# Altium schematic symbol library 单片机.SchLib: 19 symbols
Pins are listed as number, name and electrical type; pins without a type are passive.

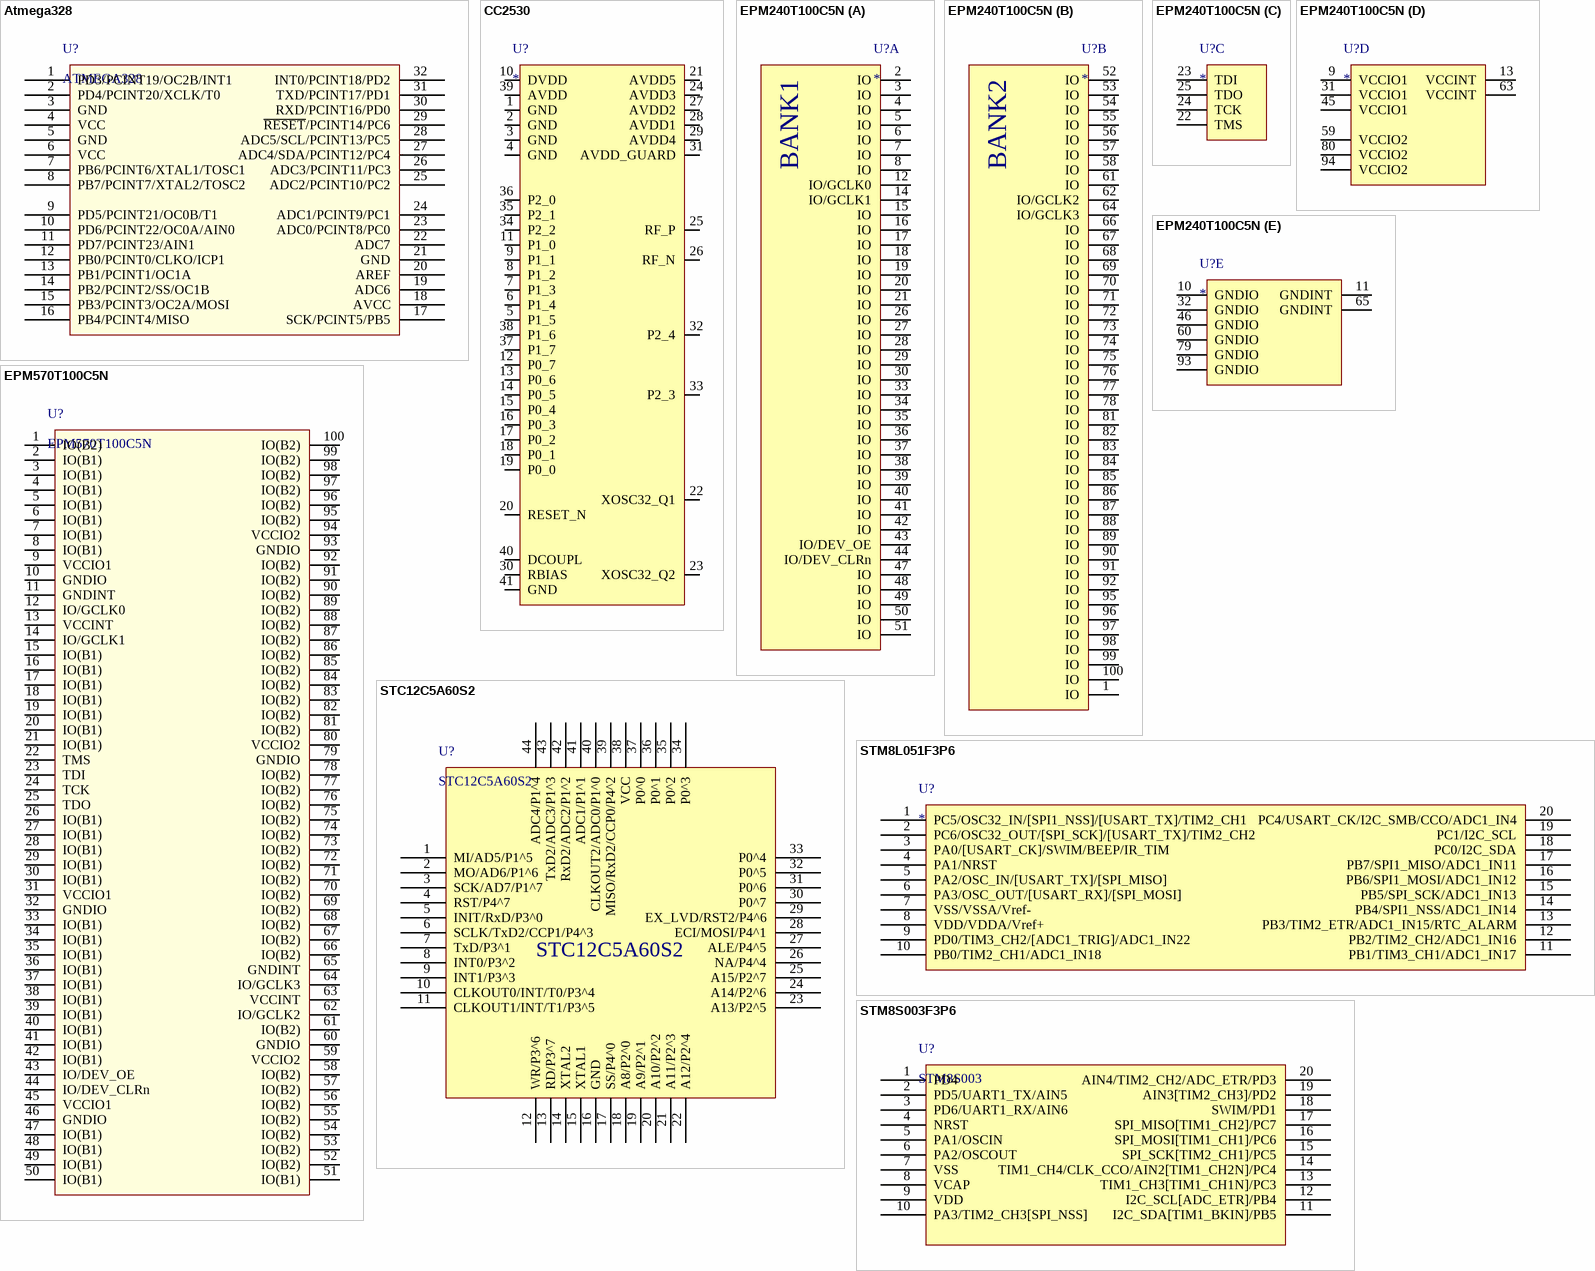
[diagram p0: symbols Atmega328 to STM8S003F3P6]

## Atmega328
designator U?, comment ATMEGA328
footprint TQFP-32_7x7x08P
pins: 1 PD3/PCINT19/OC2B/INT1, 2 PD4/PCINT20/XCLK/T0, 3 GND, 4 VCC, 5 GND, 6 VCC, 7 PB6/PCINT6/XTAL1/TOSC1, 8 PB7/PCINT7/XTAL2/TOSC2, 9 PD5/PCINT21/OC0B/T1, 10 PD6/PCINT22/OC0A/AIN0, 11 PD7/PCINT23/AIN1, 12 PB0/PCINT0/CLKO/ICP1, 13 PB1/PCINT1/OC1A, 14 PB2/PCINT2/SS/OC1B, 15 PB3/PCINT3/OC2A/MOSI, 16 PB4/PCINT4/MISO, 17 SCK/PCINT5/PB5, 18 AVCC, 19 ADC6, 20 AREF, 21 GND, 22 ADC7, 23 ADC0/PCINT8/PC0, 24 ADC1/PCINT9/PC1, 25 ADC2/PCINT10/PC2, 26 ADC3/PCINT11/PC3, 27 ADC4/SDA/PCINT12/PC4, 28 ADC5/SCL/PCINT13/PC5, 29 ~{RESET}/PCINT14/PC6, 30 RXD/PCINT16/PD0, 31 TXD/PCINT17/PD1, 32 INT0/PCINT18/PD2

## CC2530
designator U?
CC2530
footprint CC2530
pins: 1 GND, 2 GND, 3 GND, 4 GND, 5 P1_5, 6 P1_4, 7 P1_3, 8 P1_2, 9 P1_1, 10 DVDD, 11 P1_0, 12 P0_7, 13 P0_6, 14 P0_5, 15 P0_4, 16 P0_3, 17 P0_2, 18 P0_1, 19 P0_0, 20 RESET_N, 21 AVDD5, 22 XOSC32_Q1, 23 XOSC32_Q2, 24 AVDD3, 25 RF_P, 26 RF_N, 27 AVDD2, 28 AVDD1, 29 AVDD4, 30 RBIAS, 31 AVDD_GUARD, 32 P2_4, 33 P2_3, 34 P2_2, 35 P2_1, 36 P2_0, 37 P1_7, 38 P1_6, 39 AVDD, 40 DCOUPL, 41 GND

## EPM240T100C5N
designator U?
footprint TQFP100_14X14X05P
part A pins: 2 IO, 3 IO, 4 IO, 5 IO, 6 IO, 7 IO, 8 IO, 12 IO/GCLK0, 14 IO/GCLK1, 15 IO, 16 IO, 17 IO, 18 IO, 19 IO, 20 IO, 21 IO, 26 IO, 27 IO, 28 IO, 29 IO, 30 IO, 33 IO, 34 IO, 35 IO, 36 IO, 37 IO, 38 IO, 39 IO, 40 IO, 41 IO, 42 IO, 43 IO/DEV_OE, 44 IO/DEV_CLRn, 47 IO, 48 IO, 49 IO, 50 IO, 51 IO
part B pins: 1 IO, 52 IO, 53 IO, 54 IO, 55 IO, 56 IO, 57 IO, 58 IO, 61 IO, 62 IO/GCLK2, 64 IO/GCLK3, 66 IO, 67 IO, 68 IO, 69 IO, 70 IO, 71 IO, 72 IO, 73 IO, 74 IO, 75 IO, 76 IO, 77 IO, 78 IO, 81 IO, 82 IO, 83 IO, 84 IO, 85 IO, 86 IO, 87 IO, 88 IO, 89 IO, 90 IO, 91 IO, 92 IO, 95 IO, 96 IO, 97 IO, 98 IO, 99 IO, 100 IO
part C pins: 22 TMS, 23 TDI, 24 TCK, 25 TDO
part D pins: 9 VCCIO1, 13 VCCINT, 31 VCCIO1, 45 VCCIO1, 59 VCCIO2, 63 VCCINT, 80 VCCIO2, 94 VCCIO2
part E pins: 10 GNDIO, 11 GNDINT, 32 GNDIO, 46 GNDIO, 60 GNDIO, 65 GNDINT, 79 GNDIO, 93 GNDIO
part A text: BANK1
part B text: BANK2

## EPM570T100C5N
designator U?
footprint LQFP100_L
footprint Model Name (Footprint not found)
pins: 1 IO(B2), 2 IO(B1), 3 IO(B1), 4 IO(B1), 5 IO(B1), 6 IO(B1), 7 IO(B1), 8 IO(B1), 9 VCCIO1, 10 GNDIO, 11 GNDINT, 12 IO/GCLK0, 13 VCCINT, 14 IO/GCLK1, 15 IO(B1), 16 IO(B1), 17 IO(B1), 18 IO(B1), 19 IO(B1), 20 IO(B1), 21 IO(B1), 22 TMS, 23 TDI, 24 TCK, 25 TDO, 26 IO(B1), 27 IO(B1), 28 IO(B1), 29 IO(B1), 30 IO(B1), 31 VCCIO1, 32 GNDIO, 33 IO(B1), 34 IO(B1), 35 IO(B1), 36 IO(B1), 37 IO(B1), 38 IO(B1), 39 IO(B1), 40 IO(B1), 41 IO(B1), 42 IO(B1), 43 IO/DEV_OE, 44 IO/DEV_CLRn, 45 VCCIO1, 46 GNDIO, 47 IO(B1), 48 IO(B1), 49 IO(B1), 50 IO(B1), 51 IO(B1), 52 IO(B2), 53 IO(B2), 54 IO(B2), 55 IO(B2), 56 IO(B2), 57 IO(B2), 58 IO(B2), 59 VCCIO2, 60 GNDIO, 61 IO(B2), 62 IO/GCLK2, 63 VCCINT, 64 IO/GCLK3, 65 GNDINT, 66 IO(B2), 67 IO(B2), 68 IO(B2), 69 IO(B2), 70 IO(B2), 71 IO(B2), 72 IO(B2), 73 IO(B2), 74 IO(B2), 75 IO(B2), 76 IO(B2), 77 IO(B2), 78 IO(B2), 79 GNDIO, 80 VCCIO2, 81 IO(B2), 82 IO(B2), 83 IO(B2), 84 IO(B2), 85 IO(B2), 86 IO(B2), 87 IO(B2), 88 IO(B2), 89 IO(B2), 90 IO(B2), 91 IO(B2), 92 IO(B2), 93 GNDIO, 94 VCCIO2, 95 IO(B2), 96 IO(B2), 97 IO(B2), 98 IO(B2), 99 IO(B2), 100 IO(B2)

## STC12C5A60S2
designator U?
footprint SOP44 (STC12C5A60S2)
pins: 1 MI/AD5/P1^5, 2 MO/AD6/P1^6, 3 SCK/AD7/P1^7, 4 RST/P4^7, 5 INIT/RxD/P3^0, 6 SCLK/TxD2/CCP1/P4^3, 7 TxD/P3^1, 8 INT0/P3^2, 9 INT1/P3^3, 10 CLKOUT0/INT/T0/P3^4, 11 CLKOUT1/INT/T1/P3^5, 12 WR/P3^6, 13 RD/P3^7, 14 XTAL2, 15 XTAL1, 16 GND, 17 SS/P4^0, 18 A8/P2^0, 19 A9/P2^1, 20 A10/P2^2, 21 A11/P2^3, 22 A12/P2^4, 23 A13/P2^5, 24 A14/P2^6, 25 A15/P2^7, 26 NA/P4^4, 27 ALE/P4^5, 28 ECI/MOSI/P4^1, 29 EX_LVD/RST2/P4^6, 30 P0^7, 31 P0^6, 32 P0^5, 33 P0^4, 34 P0^3, 35 P0^2, 36 P0^1, 37 P0^0, 38 VCC, 39 MISO/RxD2/CCP0/P4^2, 40 CLKOUT2/ADC0/P1^0, 41 ADC1/P1^1, 42 RxD2/ADC2/P1^2, 43 TxD2/ADC3/P1^3, 44 ADC4/P1^4

## STM8L051F3P6
designator U?
STM8L051F3P6
footprint TSSOP20
pins: 1 PC5/OSC32_IN/[SPI1_NSS]/[USART_TX]/TIM2_CH1, 2 PC6/OSC32_OUT/[SPI_SCK]/[USART_TX]/TIM2_CH2, 3 PA0/[USART_CK]/SWIM/BEEP/IR_TIM, 4 PA1/NRST, 5 PA2/OSC_IN/[USART_TX]/[SPI_MISO], 6 PA3/OSC_OUT/[USART_RX]/[SPI_MOSI], 7 VSS/VSSA/Vref-, 8 VDD/VDDA/Vref+, 9 PD0/TIM3_CH2/[ADC1_TRIG]/ADC1_IN22, 10 PB0/TIM2_CH1/ADC1_IN18, 11 PB1/TIM3_CH1/ADC1_IN17, 12 PB2/TIM2_CH2/ADC1_IN16, 13 PB3/TIM2_ETR/ADC1_IN15/RTC_ALARM, 14 PB4/SPI1_NSS/ADC1_IN14, 15 PB5/SPI_SCK/ADC1_IN13, 16 PB6/SPI1_MOSI/ADC1_IN12, 17 PB7/SPI1_MISO/ADC1_IN11, 18 PC0/I2C_SDA, 19 PC1/I2C_SCL, 20 PC4/USART_CK/I2C_SMB/CCO/ADC1_IN4

## STM8S003F3P6
designator U?, comment STM8S003
footprint TSSOP20
pins: 1 PD4, 2 PD5/UART1_TX/AIN5, 3 PD6/UART1_RX/AIN6, 4 NRST, 5 PA1/OSCIN, 6 PA2/OSCOUT, 7 VSS, 8 VCAP, 9 VDD, 10 PA3/TIM2_CH3[SPI_NSS], 11 I2C_SDA[TIM1_BKIN]/PB5, 12 I2C_SCL[ADC_ETR]/PB4, 13 TIM1_CH3[TIM1_CH1N]/PC3, 14 TIM1_CH4/CLK_CCO/AIN2[TIM1_CH2N]/PC4, 15 SPI_SCK[TIM2_CH1]/PC5, 16 SPI_MOSI[TIM1_CH1]/PC6, 17 SPI_MISO[TIM1_CH2]/PC7, 18 SWIM/PD1, 19 AIN3[TIM2_CH3]/PD2, 20 AIN4/TIM2_CH2/ADC_ETR/PD3

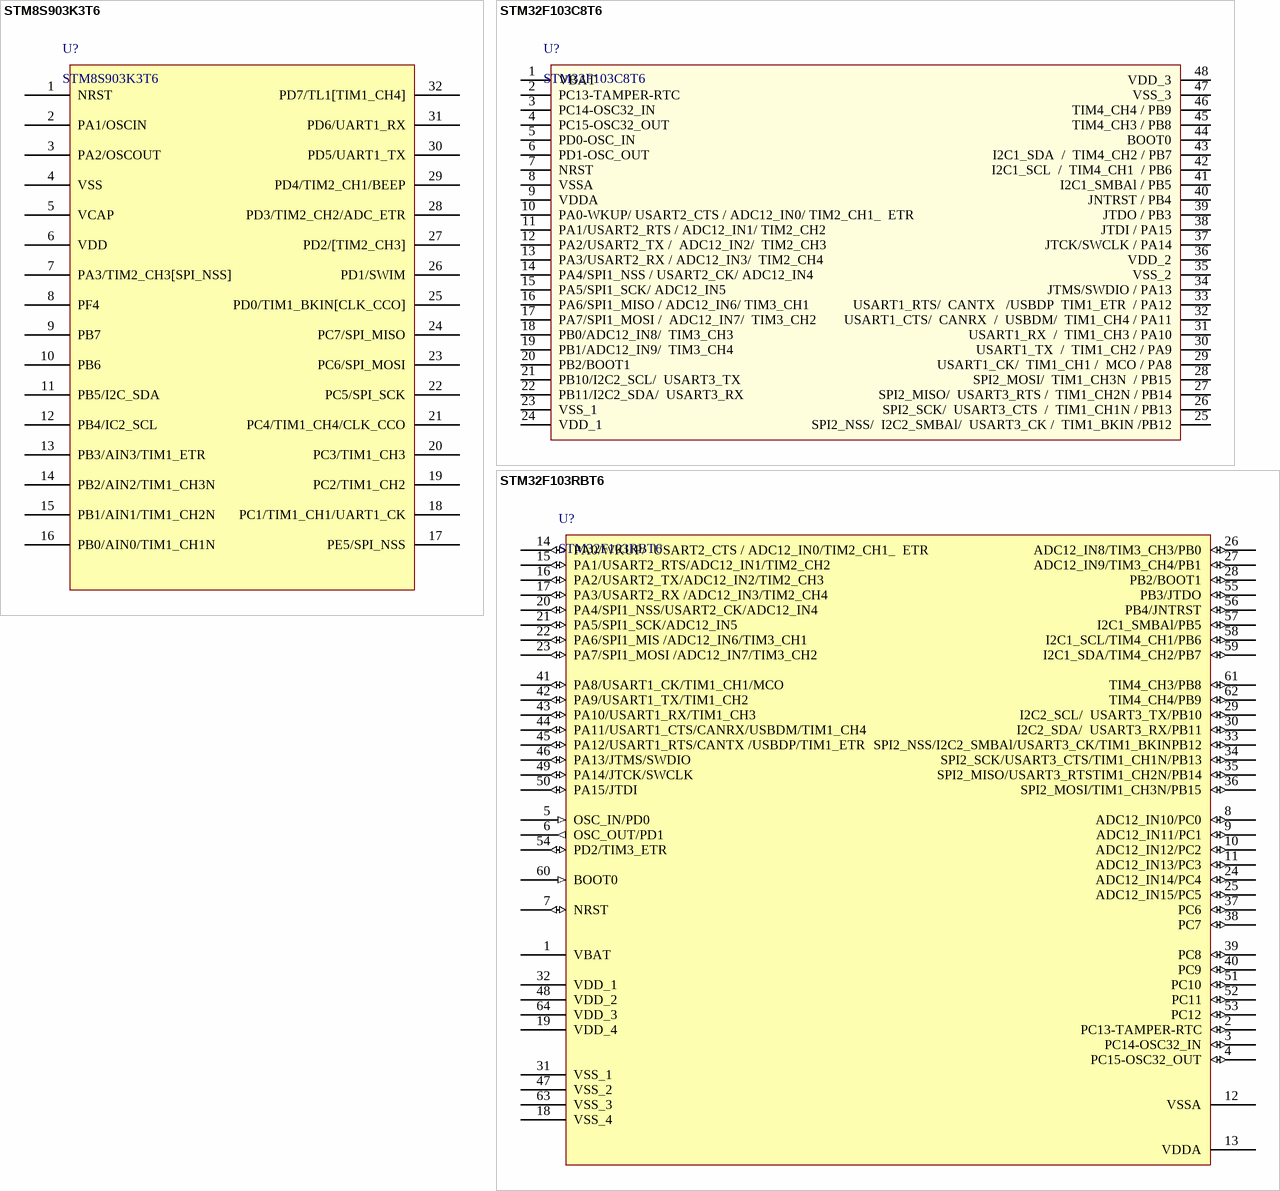
[diagram p1: symbols STM8S903K3T6 to STM32F103RBT6]

## STM8S903K3T6
designator U?
footprint LQFP32 (STM8S903K3T6)
pins: 1 NRST, 2 PA1/OSCIN, 3 PA2/OSCOUT, 4 VSS, 5 VCAP, 6 VDD, 7 PA3/TIM2_CH3[SPI_NSS], 8 PF4, 9 PB7, 10 PB6, 11 PB5/I2C_SDA, 12 PB4/IC2_SCL, 13 PB3/AIN3/TIM1_ETR, 14 PB2/AIN2/TIM1_CH3N, 15 PB1/AIN1/TIM1_CH2N, 16 PB0/AIN0/TIM1_CH1N, 17 PE5/SPI_NSS, 18 PC1/TIM1_CH1/UART1_CK, 19 PC2/TIM1_CH2, 20 PC3/TIM1_CH3, 21 PC4/TIM1_CH4/CLK_CCO, 22 PC5/SPI_SCK, 23 PC6/SPI_MOSI, 24 PC7/SPI_MISO, 25 PD0/TIM1_BKIN[CLK_CCO], 26 PD1/SWIM, 27 PD2/[TIM2_CH3], 28 PD3/TIM2_CH2/ADC_ETR, 29 PD4/TIM2_CH1/BEEP, 30 PD5/UART1_TX, 31 PD6/UART1_RX, 32 PD7/TL1[TIM1_CH4]

## STM32F103C8T6
designator U?
48PIN
footprint LQFP48_7X7X05P_L (焊盘加长)
footprint LQFP48_7X7X05P
pins: 1 VBAT, 2 PC13-TAMPER-RTC, 3 PC14-OSC32_IN, 4 PC15-OSC32_OUT, 5 PD0-OSC_IN, 6 PD1-OSC_OUT, 7 NRST, 8 VSSA, 9 VDDA, 10 PA0-WKUP/ USART2_CTS / ADC12_IN0/ TIM2_CH1_  ETR , 11 PA1/USART2_RTS / ADC12_IN1/ TIM2_CH2, 12 PA2/USART2_TX /  ADC12_IN2/  TIM2_CH3, 13 PA3/USART2_RX / ADC12_IN3/  TIM2_CH4, 14 PA4/SPI1_NSS / USART2_CK/ ADC12_IN4, 15 PA5/SPI1_SCK/ ADC12_IN5, 16 PA6/SPI1_MISO / ADC12_IN6/ TIM3_CH1, 17 PA7/SPI1_MOSI /  ADC12_IN7/  TIM3_CH2, 18 PB0/ADC12_IN8/  TIM3_CH3, 19 PB1/ADC12_IN9/  TIM3_CH4, 20 PB2/BOOT1, 21 PB10/I2C2_SCL/  USART3_TX , 22 PB11/I2C2_SDA/  USART3_RX, 23 VSS_1, 24 VDD_1, 25 SPI2_NSS/  I2C2_SMBAl/  USART3_CK /  TIM1_BKIN /PB12, 26 SPI2_SCK/  USART3_CTS  /  TIM1_CH1N / PB13, 27 SPI2_MISO/  USART3_RTS /  TIM1_CH2N / PB14, 28 SPI2_MOSI/  TIM1_CH3N  / PB15, 29 USART1_CK/  TIM1_CH1 /  MCO / PA8, 30 USART1_TX  /  TIM1_CH2 / PA9, 31 USART1_RX  /  TIM1_CH3 / PA10, 32 USART1_CTS/  CANRX  /  USBDM/  TIM1_CH4 / PA11, 33 USART1_RTS/  CANTX   /USBDP  TIM1_ETR  / PA12, 34 JTMS/SWDIO / PA13, 35 VSS_2, 36 VDD_2, 37 JTCK/SWCLK / PA14, 38 JTDI / PA15, 39 JTDO / PB3, 40 JNTRST / PB4, 41 I2C1_SMBAl / PB5, 42 I2C1_SCL  /  TIM4_CH1  / PB6, 43 I2C1_SDA  /  TIM4_CH2 / PB7, 44 BOOT0, 45 TIM4_CH3 / PB8, 46 TIM4_CH4 / PB9, 47 VSS_3, 48 VDD_3

## STM32F103RBT6
designator U?
64PIN
footprint LQFP64_N
pins: 1 VBAT (power), 2 PC13-TAMPER-RTC (io), 3 PC14-OSC32_IN (io), 4 PC15-OSC32_OUT (io), 5 OSC_IN/PD0 (in), 6 OSC_OUT/PD1 (out), 7 NRST (io), 8 ADC12_IN10/PC0 (io), 9 ADC12_IN11/PC1 (io), 10 ADC12_IN12/PC2 (io), 11 ADC12_IN13/PC3 (io), 12 VSSA (power), 13 VDDA (power), 14 PA0/WKUP/  USART2_CTS / ADC12_IN0/TIM2_CH1_  ETR (io), 15 PA1/USART2_RTS/ADC12_IN1/TIM2_CH2 (io), 16 PA2/USART2_TX/ADC12_IN2/TIM2_CH3 (io), 17 PA3/USART2_RX /ADC12_IN3/TIM2_CH4 (io), 18 VSS_4 (power), 19 VDD_4 (power), 20 PA4/SPI1_NSS/USART2_CK/ADC12_IN4 (io), 21 PA5/SPI1_SCK/ADC12_IN5 (io), 22 PA6/SPI1_MIS /ADC12_IN6/TIM3_CH1 (io), 23 PA7/SPI1_MOSI /ADC12_IN7/TIM3_CH2 (io), 24 ADC12_IN14/PC4 (io), 25 ADC12_IN15/PC5 (io), 26 ADC12_IN8/TIM3_CH3/PB0 (io), 27 ADC12_IN9/TIM3_CH4/PB1 (io), 28 PB2/BOOT1 (io), 29 I2C2_SCL/  USART3_TX/PB10 (io), 30 I2C2_SDA/  USART3_RX/PB11 (io), 31 VSS_1 (power), 32 VDD_1 (power), 33 SPI2_NSS/I2C2_SMBAl/USART3_CK/TIM1_BKINPB12 (io), 34 SPI2_SCK/USART3_CTS/TIM1_CH1N/PB13 (io), 35 SPI2_MISO/USART3_RTSTIM1_CH2N/PB14 (io), 36 SPI2_MOSI/TIM1_CH3N/PB15 (io), 37 PC6 (io), 38 PC7 (io), 39 PC8 (io), 40 PC9 (io), 41 PA8/USART1_CK/TIM1_CH1/MCO (io), 42 PA9/USART1_TX/TIM1_CH2  (io), 43 PA10/USART1_RX/TIM1_CH3 (io), 44 PA11/USART1_CTS/CANRX/USBDM/TIM1_CH4 (io), 45 PA12/USART1_RTS/CANTX /USBDP/TIM1_ETR (io), 46 PA13/JTMS/SWDIO (io), 47 VSS_2 (power), 48 VDD_2 (power), 49 PA14/JTCK/SWCLK (io), 50 PA15/JTDI (io), 51 PC10 (io), 52 PC11 (io), 53 PC12 (io), 54 PD2/TIM3_ETR (io), 55 PB3/JTDO (io), 56 PB4/JNTRST (io), 57 I2C1_SMBAl/PB5 (io), 58 I2C1_SCL/TIM4_CH1/PB6 (io), 59 I2C1_SDA/TIM4_CH2/PB7 (io), 60 BOOT0 (in), 61 TIM4_CH3/PB8 (io), 62 TIM4_CH4/PB9 (io), 63 VSS_3 (power), 64 VDD_3 (power)

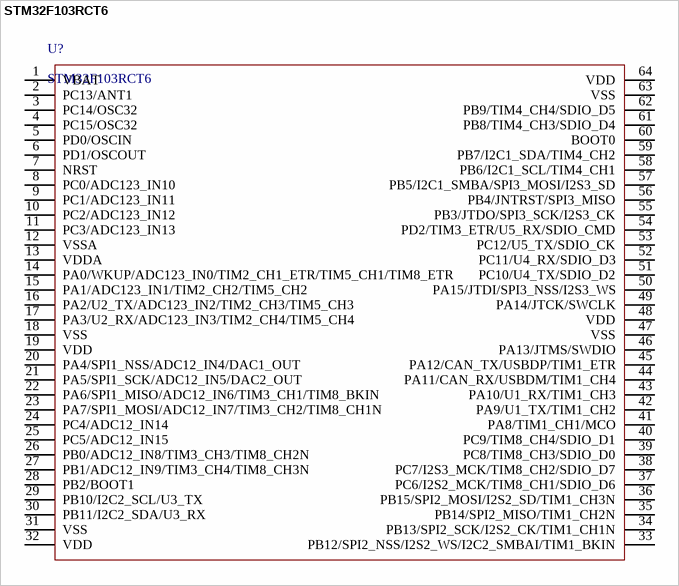
[diagram p2: symbol STM32F103RCT6]

## STM32F103RCT6
designator U?
64PIN
footprint LQFP64_N
footprint LQFP64_10X10X05P_L (焊盘加长)
pins: 1 VBAT, 2 PC13/ANT1, 3 PC14/OSC32, 4 PC15/OSC32, 5 PD0/OSCIN, 6 PD1/OSCOUT, 7 NRST, 8 PC0/ADC123_IN10, 9 PC1/ADC123_IN11, 10 PC2/ADC123_IN12, 11 PC3/ADC123_IN13, 12 VSSA, 13 VDDA, 14 PA0/WKUP/ADC123_IN0/TIM2_CH1_ETR/TIM5_CH1/TIM8_ETR, 15 PA1/ADC123_IN1/TIM2_CH2/TIM5_CH2, 16 PA2/U2_TX/ADC123_IN2/TIM2_CH3/TIM5_CH3, 17 PA3/U2_RX/ADC123_IN3/TIM2_CH4/TIM5_CH4, 18 VSS, 19 VDD, 20 PA4/SPI1_NSS/ADC12_IN4/DAC1_OUT, 21 PA5/SPI1_SCK/ADC12_IN5/DAC2_OUT, 22 PA6/SPI1_MISO/ADC12_IN6/TIM3_CH1/TIM8_BKIN, 23 PA7/SPI1_MOSI/ADC12_IN7/TIM3_CH2/TIM8_CH1N, 24 PC4/ADC12_IN14, 25 PC5/ADC12_IN15, 26 PB0/ADC12_IN8/TIM3_CH3/TIM8_CH2N, 27 PB1/ADC12_IN9/TIM3_CH4/TIM8_CH3N, 28 PB2/BOOT1, 29 PB10/I2C2_SCL/U3_TX, 30 PB11/I2C2_SDA/U3_RX, 31 VSS, 32 VDD, 33 PB12/SPI2_NSS/I2S2_WS/I2C2_SMBAI/TIM1_BKIN, 34 PB13/SPI2_SCK/I2S2_CK/TIM1_CH1N, 35 PB14/SPI2_MISO/TIM1_CH2N, 36 PB15/SPI2_MOSI/I2S2_SD/TIM1_CH3N, 37 PC6/I2S2_MCK/TIM8_CH1/SDIO_D6, 38 PC7/I2S3_MCK/TIM8_CH2/SDIO_D7, 39 PC8/TIM8_CH3/SDIO_D0, 40 PC9/TIM8_CH4/SDIO_D1, 41 PA8/TIM1_CH1/MCO, 42 PA9/U1_TX/TIM1_CH2, 43 PA10/U1_RX/TIM1_CH3, 44 PA11/CAN_RX/USBDM/TIM1_CH4, 45 PA12/CAN_TX/USBDP/TIM1_ETR, 46 PA13/JTMS/SWDIO, 47 VSS, 48 VDD, 49 PA14/JTCK/SWCLK, 50 PA15/JTDI/SPI3_NSS/I2S3_WS, 51 PC10/U4_TX/SDIO_D2, 52 PC11/U4_RX/SDIO_D3, 53 PC12/U5_TX/SDIO_CK, 54 PD2/TIM3_ETR/U5_RX/SDIO_CMD, 55 PB3/JTDO/SPI3_SCK/I2S3_CK, 56 PB4/JNTRST/SPI3_MISO, 57 PB5/I2C1_SMBA/SPI3_MOSI/I2S3_SD, 58 PB6/I2C1_SCL/TIM4_CH1, 59 PB7/I2C1_SDA/TIM4_CH2, 60 BOOT0, 61 PB8/TIM4_CH3/SDIO_D4, 62 PB9/TIM4_CH4/SDIO_D5, 63 VSS, 64 VDD

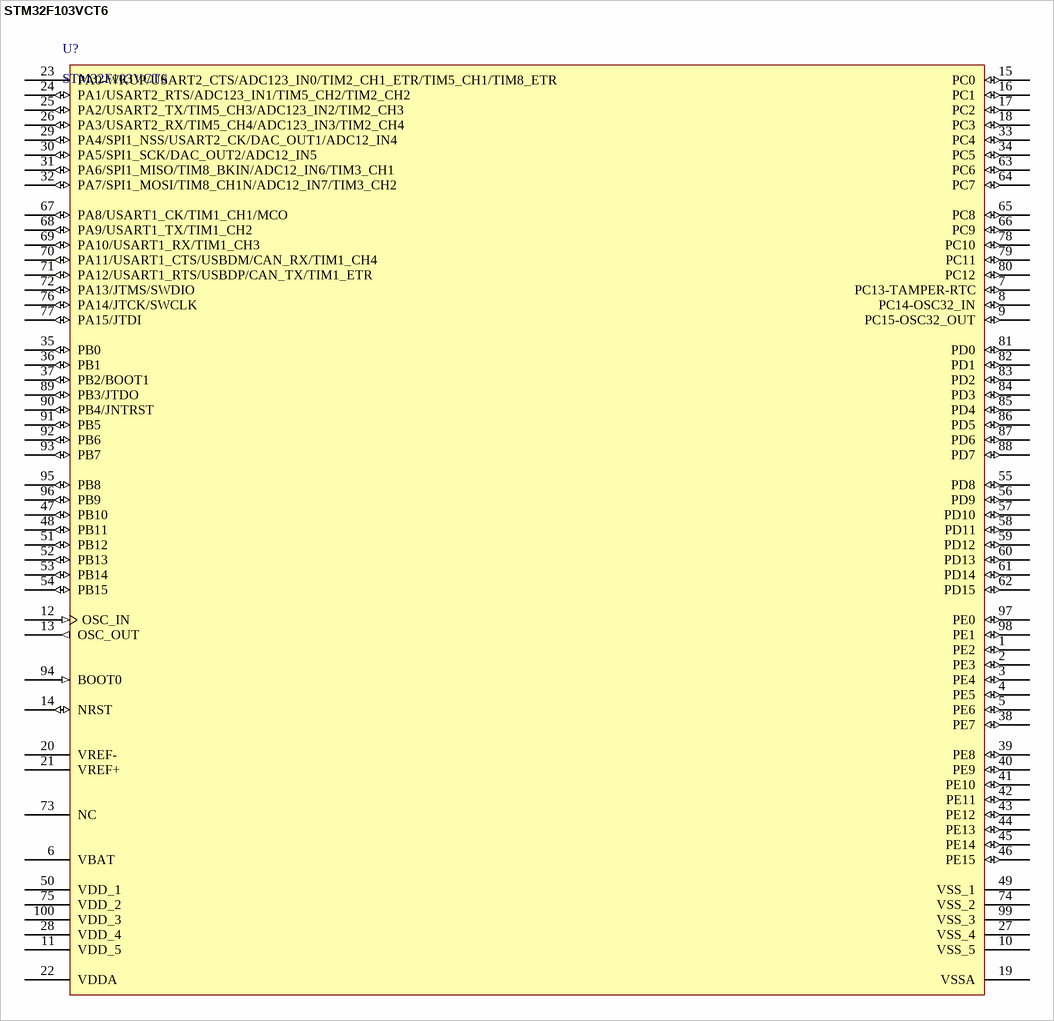
[diagram p3: symbol STM32F103VCT6]

## STM32F103VCT6
designator U?
100PIN
footprint LQFP100_N
pins: 1 PE2 (io), 2 PE3 (io), 3 PE4 (io), 4 PE5 (io), 5 PE6 (io), 6 VBAT (power), 7 PC13-TAMPER-RTC (io), 8 PC14-OSC32_IN (io), 9 PC15-OSC32_OUT (io), 10 VSS_5 (power), 11 VDD_5 (power), 12 OSC_IN (in), 13 OSC_OUT (out), 14 NRST (io), 15 PC0 (io), 16 PC1 (io), 17 PC2 (io), 18 PC3 (io), 19 VSSA (power), 20 VREF- (power), 21 VREF+ (power), 22 VDDA (power), 23 PA0-WKUP/USART2_CTS/ADC123_IN0/TIM2_CH1_ETR/TIM5_CH1/TIM8_ETR, 24 PA1/USART2_RTS/ADC123_IN1/TIM5_CH2/TIM2_CH2 (io), 25 PA2/USART2_TX/TIM5_CH3/ADC123_IN2/TIM2_CH3 (io), 26 PA3/USART2_RX/TIM5_CH4/ADC123_IN3/TIM2_CH4 (io), 27 VSS_4 (power), 28 VDD_4 (power), 29 PA4/SPI1_NSS/USART2_CK/DAC_OUT1/ADC12_IN4 (io), 30 PA5/SPI1_SCK/DAC_OUT2/ADC12_IN5 (io), 31 PA6/SPI1_MISO/TIM8_BKIN/ADC12_IN6/TIM3_CH1 (io), 32 PA7/SPI1_MOSI/TIM8_CH1N/ADC12_IN7/TIM3_CH2 (io), 33 PC4 (io), 34 PC5 (io), 35 PB0 (io), 36 PB1 (io), 37 PB2/BOOT1 (io), 38 PE7 (io), 39 PE8 (io), 40 PE9 (io), 41 PE10 (io), 42 PE11 (io), 43 PE12 (io), 44 PE13 (io), 45 PE14 (io), 46 PE15 (io), 47 PB10 (io), 48 PB11 (io), 49 VSS_1 (power), 50 VDD_1 (power), 51 PB12 (io), 52 PB13 (io), 53 PB14 (io), 54 PB15 (io), 55 PD8 (io), 56 PD9 (io), 57 PD10 (io), 58 PD11 (io), 59 PD12 (io), 60 PD13 (io), 61 PD14 (io), 62 PD15 (io), 63 PC6 (io), 64 PC7 (io), 65 PC8 (io), 66 PC9 (io), 67 PA8/USART1_CK/TIM1_CH1/MCO (io), 68 PA9/USART1_TX/TIM1_CH2 (io), 69 PA10/USART1_RX/TIM1_CH3 (io), 70 PA11/USART1_CTS/USBDM/CAN_RX/TIM1_CH4 (io), 71 PA12/USART1_RTS/USBDP/CAN_TX/TIM1_ETR (io), 72 PA13/JTMS/SWDIO (io), 73 NC, 74 VSS_2 (power), 75 VDD_2 (power), 76 PA14/JTCK/SWCLK (io), 77 PA15/JTDI (io), 78 PC10 (io), 79 PC11 (io), 80 PC12 (io), 81 PD0 (io), 82 PD1 (io), 83 PD2 (io), 84 PD3 (io), 85 PD4 (io), 86 PD5 (io), 87 PD6 (io), 88 PD7 (io), 89 PB3/JTDO (io), 90 PB4/JNTRST (io), 91 PB5 (io), 92 PB6 (io), 93 PB7 (io), 94 BOOT0 (in), 95 PB8 (io), 96 PB9 (io), 97 PE0 (io), 98 PE1 (io), 99 VSS_3 (power), 100 VDD_3 (power)

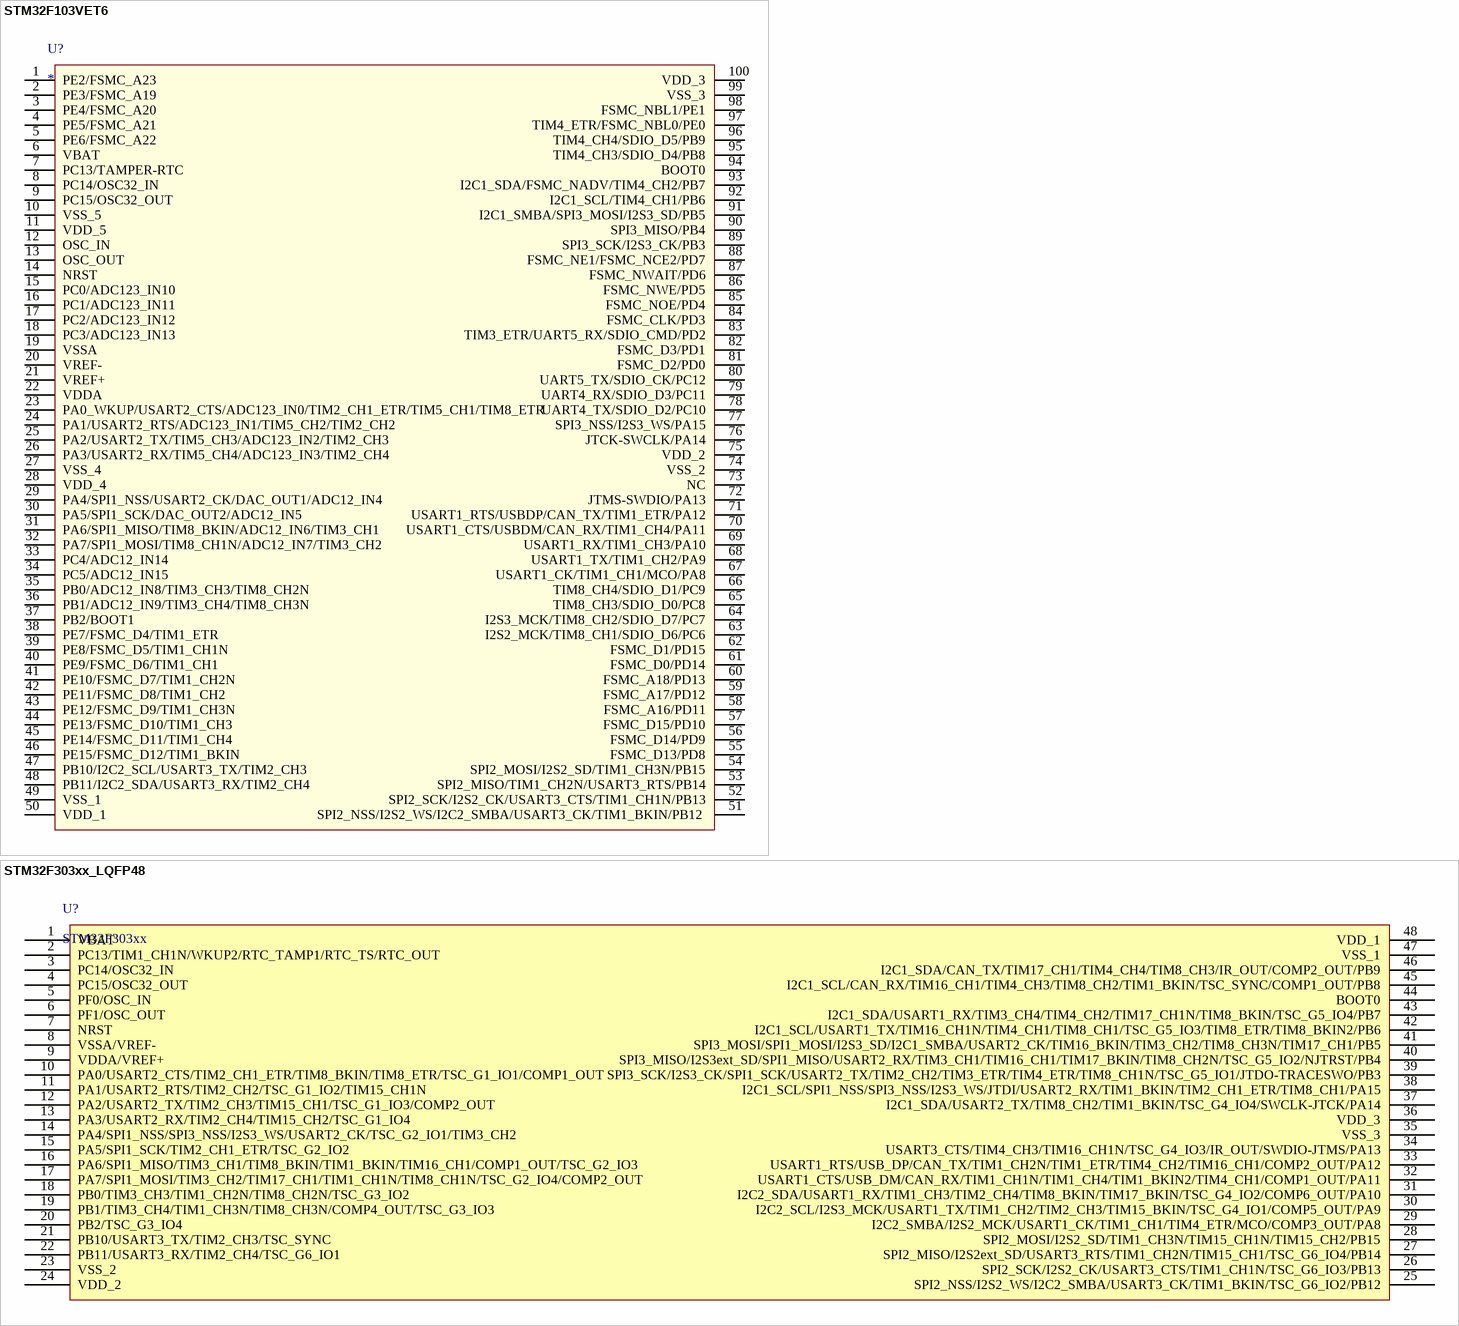
[diagram p4: symbols STM32F103VET6 to STM32F303xx_LQFP48]

## STM32F103VET6
designator U?
100PIN
footprint LQFP100_L
pins: 1 PE2/FSMC_A23, 2 PE3/FSMC_A19, 3 PE4/FSMC_A20, 4 PE5/FSMC_A21, 5 PE6/FSMC_A22, 6 VBAT, 7 PC13/TAMPER-RTC, 8 PC14/OSC32_IN, 9 PC15/OSC32_OUT, 10 VSS_5, 11 VDD_5, 12 OSC_IN, 13 OSC_OUT, 14 NRST, 15 PC0/ADC123_IN10, 16 PC1/ADC123_IN11, 17 PC2/ADC123_IN12, 18 PC3/ADC123_IN13, 19 VSSA, 20 VREF-, 21 VREF+, 22 VDDA, 23 PA0_WKUP/USART2_CTS/ADC123_IN0/TIM2_CH1_ETR/TIM5_CH1/TIM8_ETR, 24 PA1/USART2_RTS/ADC123_IN1/TIM5_CH2/TIM2_CH2, 25 PA2/USART2_TX/TIM5_CH3/ADC123_IN2/TIM2_CH3, 26 PA3/USART2_RX/TIM5_CH4/ADC123_IN3/TIM2_CH4, 27 VSS_4, 28 VDD_4, 29 PA4/SPI1_NSS/USART2_CK/DAC_OUT1/ADC12_IN4, 30 PA5/SPI1_SCK/DAC_OUT2/ADC12_IN5, 31 PA6/SPI1_MISO/TIM8_BKIN/ADC12_IN6/TIM3_CH1, 32 PA7/SPI1_MOSI/TIM8_CH1N/ADC12_IN7/TIM3_CH2, 33 PC4/ADC12_IN14, 34 PC5/ADC12_IN15, 35 PB0/ADC12_IN8/TIM3_CH3/TIM8_CH2N, 36 PB1/ADC12_IN9/TIM3_CH4/TIM8_CH3N, 37 PB2/BOOT1, 38 PE7/FSMC_D4/TIM1_ETR, 39 PE8/FSMC_D5/TIM1_CH1N, 40 PE9/FSMC_D6/TIM1_CH1, 41 PE10/FSMC_D7/TIM1_CH2N, 42 PE11/FSMC_D8/TIM1_CH2, 43 PE12/FSMC_D9/TIM1_CH3N, 44 PE13/FSMC_D10/TIM1_CH3, 45 PE14/FSMC_D11/TIM1_CH4, 46 PE15/FSMC_D12/TIM1_BKIN, 47 PB10/I2C2_SCL/USART3_TX/TIM2_CH3, 48 PB11/I2C2_SDA/USART3_RX/TIM2_CH4, 49 VSS_1, 50 VDD_1, 51 SPI2_NSS/I2S2_WS/I2C2_SMBA/USART3_CK/TIM1_BKIN/PB12 , 52 SPI2_SCK/I2S2_CK/USART3_CTS/TIM1_CH1N/PB13, 53 SPI2_MISO/TIM1_CH2N/USART3_RTS/PB14, 54 SPI2_MOSI/I2S2_SD/TIM1_CH3N/PB15, 55 FSMC_D13/PD8, 56 FSMC_D14/PD9, 57 FSMC_D15/PD10, 58 FSMC_A16/PD11, 59 FSMC_A17/PD12, 60 FSMC_A18/PD13, 61 FSMC_D0/PD14, 62 FSMC_D1/PD15, 63 I2S2_MCK/TIM8_CH1/SDIO_D6/PC6, 64 I2S3_MCK/TIM8_CH2/SDIO_D7/PC7, 65 TIM8_CH3/SDIO_D0/PC8, 66 TIM8_CH4/SDIO_D1/PC9, 67 USART1_CK/TIM1_CH1/MCO/PA8, 68 USART1_TX/TIM1_CH2/PA9, 69 USART1_RX/TIM1_CH3/PA10, 70 USART1_CTS/USBDM/CAN_RX/TIM1_CH4/PA11, 71 USART1_RTS/USBDP/CAN_TX/TIM1_ETR/PA12, 72 JTMS-SWDIO/PA13, 73 NC, 74 VSS_2, 75 VDD_2, 76 JTCK-SWCLK/PA14, 77 SPI3_NSS/I2S3_WS/PA15, 78 UART4_TX/SDIO_D2/PC10, 79 UART4_RX/SDIO_D3/PC11, 80 UART5_TX/SDIO_CK/PC12, 81 FSMC_D2/PD0, 82 FSMC_D3/PD1, 83 TIM3_ETR/UART5_RX/SDIO_CMD/PD2, 84 FSMC_CLK/PD3, 85 FSMC_NOE/PD4, 86 FSMC_NWE/PD5, 87 FSMC_NWAIT/PD6, 88 FSMC_NE1/FSMC_NCE2/PD7, 89 SPI3_SCK/I2S3_CK/PB3, 90 SPI3_MISO/PB4, 91 I2C1_SMBA/SPI3_MOSI/I2S3_SD/PB5, 92 I2C1_SCL/TIM4_CH1/PB6, 93 I2C1_SDA/FSMC_NADV/TIM4_CH2/PB7, 94 BOOT0, 95 TIM4_CH3/SDIO_D4/PB8, 96 TIM4_CH4/SDIO_D5/PB9, 97 TIM4_ETR/FSMC_NBL0/PE0, 98 FSMC_NBL1/PE1, 99 VSS_3, 100 VDD_3

## STM32F303xx_LQFP48
designator U?, comment STM32F303xx
footprint LQFP48_7X7X05P_L (焊盘加长)
pins: 1 VBAT, 2 PC13/TIM1_CH1N/WKUP2/RTC_TAMP1/RTC_TS/RTC_OUT, 3 PC14/OSC32_IN, 4 PC15/OSC32_OUT, 5 PF0/OSC_IN, 6 PF1/OSC_OUT, 7 NRST, 8 VSSA/VREF-, 9 VDDA/VREF+, 10 PA0/USART2_CTS/TIM2_CH1_ETR/TIM8_BKIN/TIM8_ETR/TSC_G1_IO1/COMP1_OUT, 11 PA1/USART2_RTS/TIM2_CH2/TSC_G1_IO2/TIM15_CH1N, 12 PA2/USART2_TX/TIM2_CH3/TIM15_CH1/TSC_G1_IO3/COMP2_OUT, 13 PA3/USART2_RX/TIM2_CH4/TIM15_CH2/TSC_G1_IO4, 14 PA4/SPI1_NSS/SPI3_NSS/I2S3_WS/USART2_CK/TSC_G2_IO1/TIM3_CH2, 15 PA5/SPI1_SCK/TIM2_CH1_ETR/TSC_G2_IO2, 16 PA6/SPI1_MISO/TIM3_CH1/TIM8_BKIN/TIM1_BKIN/TIM16_CH1/COMP1_OUT/TSC_G2_IO3, 17 PA7/SPI1_MOSI/TIM3_CH2/TIM17_CH1/TIM1_CH1N/TIM8_CH1N/TSC_G2_IO4/COMP2_OUT, 18 PB0/TIM3_CH3/TIM1_CH2N/TIM8_CH2N/TSC_G3_IO2, 19 PB1/TIM3_CH4/TIM1_CH3N/TIM8_CH3N/COMP4_OUT/TSC_G3_IO3, 20 PB2/TSC_G3_IO4, 21 PB10/USART3_TX/TIM2_CH3/TSC_SYNC, 22 PB11/USART3_RX/TIM2_CH4/TSC_G6_IO1, 23 VSS_2, 24 VDD_2, 25 SPI2_NSS/I2S2_WS/I2C2_SMBA/USART3_CK/TIM1_BKIN/TSC_G6_IO2/PB12, 26 SPI2_SCK/I2S2_CK/USART3_CTS/TIM1_CH1N/TSC_G6_IO3/PB13, 27 SPI2_MISO/I2S2ext_SD/USART3_RTS/TIM1_CH2N/TIM15_CH1/TSC_G6_IO4/PB14, 28 SPI2_MOSI/I2S2_SD/TIM1_CH3N/TIM15_CH1N/TIM15_CH2/PB15, 29 I2C2_SMBA/I2S2_MCK/USART1_CK/TIM1_CH1/TIM4_ETR/MCO/COMP3_OUT/PA8, 30 I2C2_SCL/I2S3_MCK/USART1_TX/TIM1_CH2/TIM2_CH3/TIM15_BKIN/TSC_G4_IO1/COMP5_OUT/PA9, 31 I2C2_SDA/USART1_RX/TIM1_CH3/TIM2_CH4/TIM8_BKIN/TIM17_BKIN/TSC_G4_IO2/COMP6_OUT/PA10, 32 USART1_CTS/USB_DM/CAN_RX/TIM1_CH1N/TIM1_CH4/TIM1_BKIN2/TIM4_CH1/COMP1_OUT/PA11, 33 USART1_RTS/USB_DP/CAN_TX/TIM1_CH2N/TIM1_ETR/TIM4_CH2/TIM16_CH1/COMP2_OUT/PA12, 34 USART3_CTS/TIM4_CH3/TIM16_CH1N/TSC_G4_IO3/IR_OUT/SWDIO-JTMS/PA13, 35 VSS_3, 36 VDD_3, 37 I2C1_SDA/USART2_TX/TIM8_CH2/TIM1_BKIN/TSC_G4_IO4/SWCLK-JTCK/PA14, 38 I2C1_SCL/SPI1_NSS/SPI3_NSS/I2S3_WS/JTDI/USART2_RX/TIM1_BKIN/TIM2_CH1_ETR/TIM8_CH1/PA15, 39 SPI3_SCK/I2S3_CK/SPI1_SCK/USART2_TX/TIM2_CH2/TIM3_ETR/TIM4_ETR/TIM8_CH1N/TSC_G5_IO1/JTDO-TRACESWO/PB3, 40 SPI3_MISO/I2S3ext_SD/SPI1_MISO/USART2_RX/TIM3_CH1/TIM16_CH1/TIM17_BKIN/TIM8_CH2N/TSC_G5_IO2/NJTRST/PB4, 41 SPI3_MOSI/SPI1_MOSI/I2S3_SD/I2C1_SMBA/USART2_CK/TIM16_BKIN/TIM3_CH2/TIM8_CH3N/TIM17_CH1/PB5, 42 I2C1_SCL/USART1_TX/TIM16_CH1N/TIM4_CH1/TIM8_CH1/TSC_G5_IO3/TIM8_ETR/TIM8_BKIN2/PB6, 43 I2C1_SDA/USART1_RX/TIM3_CH4/TIM4_CH2/TIM17_CH1N/TIM8_BKIN/TSC_G5_IO4/PB7, 44 BOOT0, 45 I2C1_SCL/CAN_RX/TIM16_CH1/TIM4_CH3/TIM8_CH2/TIM1_BKIN/TSC_SYNC/COMP1_OUT/PB8, 46 I2C1_SDA/CAN_TX/TIM17_CH1/TIM4_CH4/TIM8_CH3/IR_OUT/COMP2_OUT/PB9, 47 VSS_1, 48 VDD_1

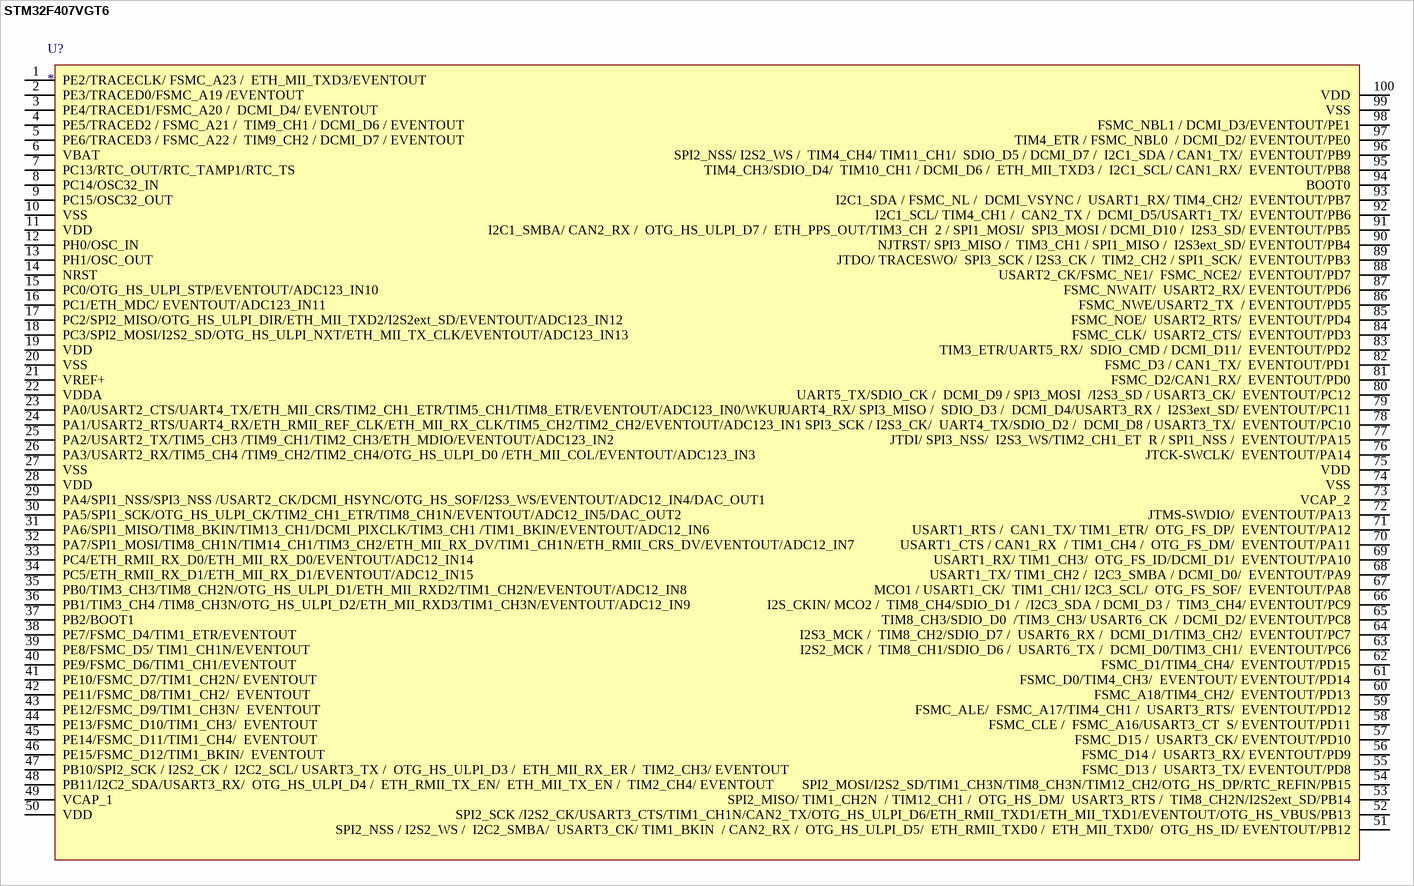
[diagram p5: symbol STM32F407VGT6]

## STM32F407VGT6
designator U?
footprint LQFP100_L
pins: 1 PE2/TRACECLK/ FSMC_A23 /  ETH_MII_TXD3/EVENTOUT, 2 PE3/TRACED0/FSMC_A19 /EVENTOUT, 3 PE4/TRACED1/FSMC_A20 /  DCMI_D4/ EVENTOUT, 4 PE5/TRACED2 / FSMC_A21 /  TIM9_CH1 / DCMI_D6 / EVENTOUT, 5 PE6/TRACED3 / FSMC_A22 /  TIM9_CH2 / DCMI_D7 / EVENTOUT, 6 VBAT, 7 PC13/RTC_OUT/RTC_TAMP1/RTC_TS, 8 PC14/OSC32_IN, 9 PC15/OSC32_OUT, 10 VSS, 11 VDD, 12 PH0/OSC_IN, 13 PH1/OSC_OUT, 14 NRST, 15 PC0/OTG_HS_ULPI_STP/EVENTOUT/ADC123_IN10, 16 PC1/ETH_MDC/ EVENTOUT/ADC123_IN11, 17 PC2/SPI2_MISO/OTG_HS_ULPI_DIR/ETH_MII_TXD2/I2S2ext_SD/EVENTOUT/ADC123_IN12, 18 PC3/SPI2_MOSI/I2S2_SD/OTG_HS_ULPI_NXT/ETH_MII_TX_CLK/EVENTOUT/ADC123_IN13, 19 VDD, 20 VSS, 21 VREF+, 22 VDDA, 23 PA0/USART2_CTS/UART4_TX/ETH_MII_CRS/TIM2_CH1_ETR/TIM5_CH1/TIM8_ETR/EVENTOUT/ADC123_IN0/WKUP, 24 PA1/USART2_RTS/UART4_RX/ETH_RMII_REF_CLK/ETH_MII_RX_CLK/TIM5_CH2/TIM2_CH2/EVENTOUT/ADC123_IN1, 25 PA2/USART2_TX/TIM5_CH3 /TIM9_CH1/TIM2_CH3/ETH_MDIO/EVENTOUT/ADC123_IN2, 26 PA3/USART2_RX/TIM5_CH4 /TIM9_CH2/TIM2_CH4/OTG_HS_ULPI_D0 /ETH_MII_COL/EVENTOUT/ADC123_IN3, 27 VSS, 28 VDD, 29 PA4/SPI1_NSS/SPI3_NSS /USART2_CK/DCMI_HSYNC/OTG_HS_SOF/I2S3_WS/EVENTOUT/ADC12_IN4/DAC_OUT1, 30 PA5/SPI1_SCK/OTG_HS_ULPI_CK/TIM2_CH1_ETR/TIM8_CH1N/EVENTOUT/ADC12_IN5/DAC_OUT2, 31 PA6/SPI1_MISO/TIM8_BKIN/TIM13_CH1/DCMI_PIXCLK/TIM3_CH1 /TIM1_BKIN/EVENTOUT/ADC12_IN6, 32 PA7/SPI1_MOSI/TIM8_CH1N/TIM14_CH1/TIM3_CH2/ETH_MII_RX_DV/TIM1_CH1N/ETH_RMII_CRS_DV/EVENTOUT/ADC12_IN7, 33 PC4/ETH_RMII_RX_D0/ETH_MII_RX_D0/EVENTOUT/ADC12_IN14, 34 PC5/ETH_RMII_RX_D1/ETH_MII_RX_D1/EVENTOUT/ADC12_IN15, 35 PB0/TIM3_CH3/TIM8_CH2N/OTG_HS_ULPI_D1/ETH_MII_RXD2/TIM1_CH2N/EVENTOUT/ADC12_IN8, 36 PB1/TIM3_CH4 /TIM8_CH3N/OTG_HS_ULPI_D2/ETH_MII_RXD3/TIM1_CH3N/EVENTOUT/ADC12_IN9, 37 PB2/BOOT1, 38 PE7/FSMC_D4/TIM1_ETR/EVENTOUT, 39 PE8/FSMC_D5/ TIM1_CH1N/EVENTOUT, 40 PE9/FSMC_D6/TIM1_CH1/EVENTOUT, 41 PE10/FSMC_D7/TIM1_CH2N/ EVENTOUT, 42 PE11/FSMC_D8/TIM1_CH2/  EVENTOUT, 43 PE12/FSMC_D9/TIM1_CH3N/  EVENTOUT, 44 PE13/FSMC_D10/TIM1_CH3/  EVENTOUT, 45 PE14/FSMC_D11/TIM1_CH4/  EVENTOUT, 46 PE15/FSMC_D12/TIM1_BKIN/  EVENTOUT, 47 PB10/SPI2_SCK / I2S2_CK /  I2C2_SCL/ USART3_TX /  OTG_HS_ULPI_D3 /  ETH_MII_RX_ER /  TIM2_CH3/ EVENTOUT, 48 PB11/I2C2_SDA/USART3_RX/  OTG_HS_ULPI_D4 /  ETH_RMII_TX_EN/  ETH_MII_TX_EN /  TIM2_CH4/ EVENTOUT, 49 VCAP_1, 50 VDD, 51 SPI2_NSS / I2S2_WS /  I2C2_SMBA/  USART3_CK/ TIM1_BKIN  / CAN2_RX /  OTG_HS_ULPI_D5/  ETH_RMII_TXD0 /  ETH_MII_TXD0/  OTG_HS_ID/ EVENTOUT/PB12, 52 SPI2_SCK /I2S2_CK/USART3_CTS/TIM1_CH1N/CAN2_TX/OTG_HS_ULPI_D6/ETH_RMII_TXD1/ETH_MII_TXD1/EVENTOUT/OTG_HS_VBUS/PB13, 53 SPI2_MISO/ TIM1_CH2N  / TIM12_CH1 /  OTG_HS_DM/  USART3_RTS /  TIM8_CH2N/I2S2ext_SD/PB14, 54 SPI2_MOSI/I2S2_SD/TIM1_CH3N/TIM8_CH3N/TIM12_CH2/OTG_HS_DP/RTC_REFIN/PB15, 55 FSMC_D13 /  USART3_TX/ EVENTOUT/PD8, 56 FSMC_D14 /  USART3_RX/ EVENTOUT/PD9, 57 FSMC_D15 /  USART3_CK/ EVENTOUT/PD10, 58 FSMC_CLE /  FSMC_A16/USART3_CT  S/ EVENTOUT/PD11, 59 FSMC_ALE/  FSMC_A17/TIM4_CH1 /  USART3_RTS/  EVENTOUT/PD12, 60 FSMC_A18/TIM4_CH2/  EVENTOUT/PD13, 61 FSMC_D0/TIM4_CH3/  EVENTOUT/ EVENTOUT/PD14, 62 FSMC_D1/TIM4_CH4/  EVENTOUT/PD15, 63 I2S2_MCK /  TIM8_CH1/SDIO_D6 /  USART6_TX /  DCMI_D0/TIM3_CH1/  EVENTOUT/PC6, 64 I2S3_MCK /  TIM8_CH2/SDIO_D7 /  USART6_RX /  DCMI_D1/TIM3_CH2/  EVENTOUT/PC7, 65 TIM8_CH3/SDIO_D0  /TIM3_CH3/ USART6_CK  / DCMI_D2/ EVENTOUT/PC8, 66 I2S_CKIN/ MCO2 /  TIM8_CH4/SDIO_D1 /  /I2C3_SDA / DCMI_D3 /  TIM3_CH4/ EVENTOUT/PC9, 67 MCO1 / USART1_CK/  TIM1_CH1/ I2C3_SCL/  OTG_FS_SOF/  EVENTOUT/PA8, 68 USART1_TX/ TIM1_CH2 /  I2C3_SMBA / DCMI_D0/  EVENTOUT/PA9, 69 USART1_RX/ TIM1_CH3/  OTG_FS_ID/DCMI_D1/  EVENTOUT/PA10, 70 USART1_CTS / CAN1_RX  / TIM1_CH4 /  OTG_FS_DM/  EVENTOUT/PA11, 71 USART1_RTS /  CAN1_TX/ TIM1_ETR/  OTG_FS_DP/  EVENTOUT/PA12, 72 JTMS-SWDIO/  EVENTOUT/PA13, 73 VCAP_2, 74 VSS, 75 VDD, 76 JTCK-SWCLK/  EVENTOUT/PA14, 77 JTDI/ SPI3_NSS/  I2S3_WS/TIM2_CH1_ET  R / SPI1_NSS /  EVENTOUT/PA15, 78 SPI3_SCK / I2S3_CK/  UART4_TX/SDIO_D2 /  DCMI_D8 / USART3_TX/  EVENTOUT/PC10, 79 UART4_RX/ SPI3_MISO /  SDIO_D3 /  DCMI_D4/USART3_RX /  I2S3ext_SD/ EVENTOUT/PC11, 80 UART5_TX/SDIO_CK /  DCMI_D9 / SPI3_MOSI  /I2S3_SD / USART3_CK/  EVENTOUT/PC12, 81 FSMC_D2/CAN1_RX/  EVENTOUT/PD0, 82 FSMC_D3 / CAN1_TX/  EVENTOUT/PD1, 83 TIM3_ETR/UART5_RX/  SDIO_CMD / DCMI_D11/  EVENTOUT/PD2, 84 FSMC_CLK/  USART2_CTS/  EVENTOUT/PD3, 85 FSMC_NOE/  USART2_RTS/  EVENTOUT/PD4, 86 FSMC_NWE/USART2_TX  / EVENTOUT/PD5, 87 FSMC_NWAIT/  USART2_RX/ EVENTOUT/PD6, 88 USART2_CK/FSMC_NE1/  FSMC_NCE2/  EVENTOUT/PD7, 89 JTDO/ TRACESWO/  SPI3_SCK / I2S3_CK /  TIM2_CH2 / SPI1_SCK/  EVENTOUT/PB3, 90 NJTRST/ SPI3_MISO /  TIM3_CH1 / SPI1_MISO /  I2S3ext_SD/ EVENTOUT/PB4, 91 I2C1_SMBA/ CAN2_RX /  OTG_HS_ULPI_D7 /  ETH_PPS_OUT/TIM3_CH  2 / SPI1_MOSI/  SPI3_MOSI / DCMI_D10 /  I2S3_SD/ EVENTOUT/PB5, 92 I2C1_SCL/ TIM4_CH1 /  CAN2_TX /  DCMI_D5/USART1_TX/  EVENTOUT/PB6, 93 I2C1_SDA / FSMC_NL /  DCMI_VSYNC /  USART1_RX/ TIM4_CH2/  EVENTOUT/PB7, 94 BOOT0, 95 TIM4_CH3/SDIO_D4/  TIM10_CH1 / DCMI_D6 /  ETH_MII_TXD3 /  I2C1_SCL/ CAN1_RX/  EVENTOUT/PB8, 96 SPI2_NSS/ I2S2_WS /  TIM4_CH4/ TIM11_CH1/  SDIO_D5 / DCMI_D7 /  I2C1_SDA / CAN1_TX/  EVENTOUT/PB9, 97 TIM4_ETR / FSMC_NBL0  / DCMI_D2/ EVENTOUT/PE0, 98 FSMC_NBL1 / DCMI_D3/EVENTOUT/PE1, 99 VSS, 100 VDD

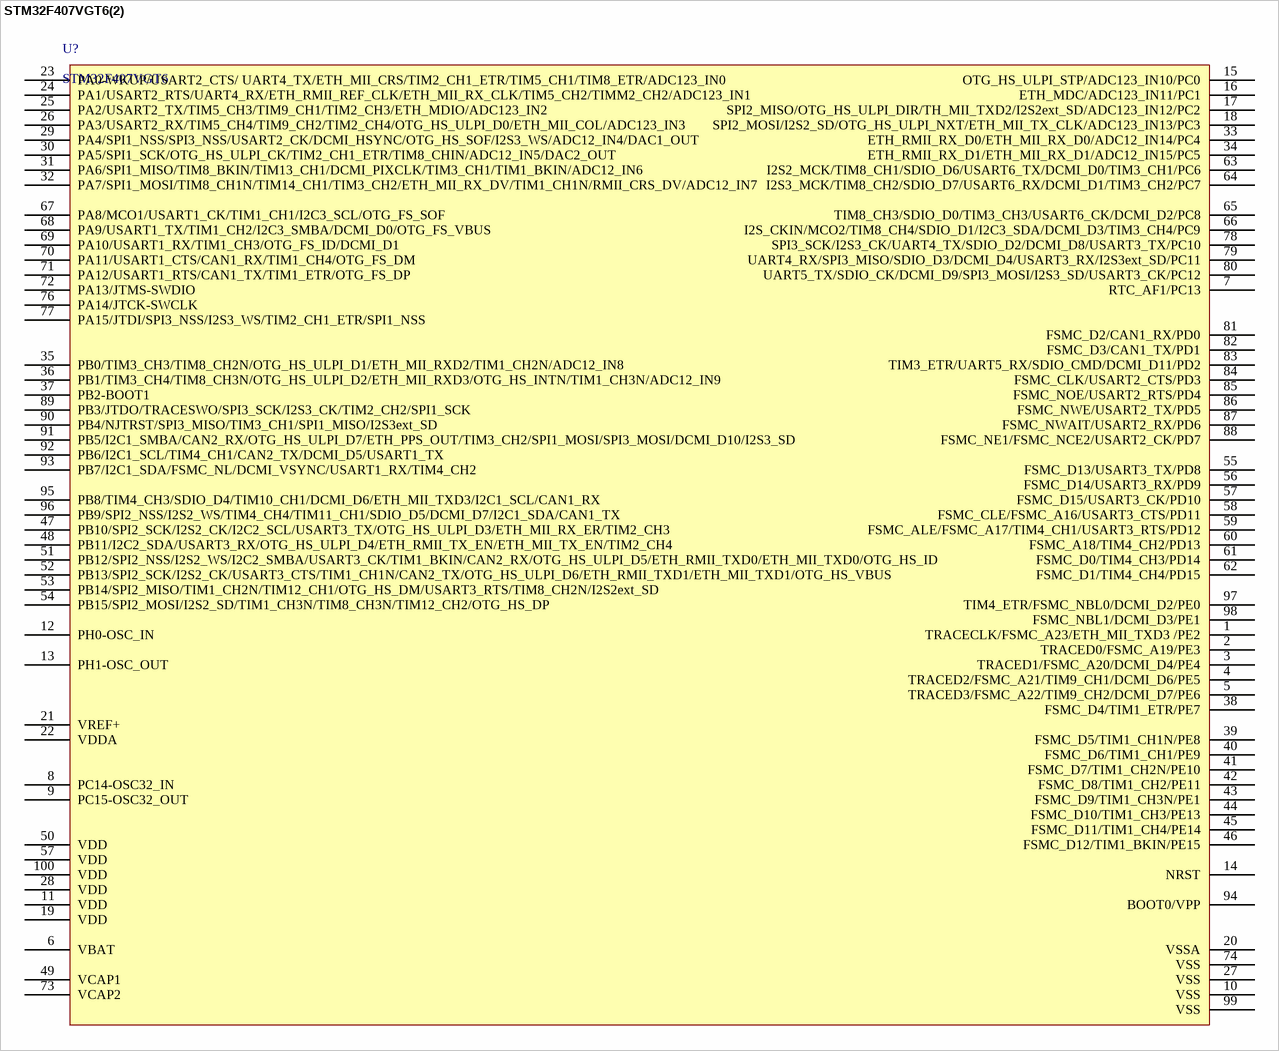
[diagram p6: symbol STM32F407VGT6(2)]

## STM32F407VGT6(2)
designator U?, comment STM32F407VGT6
footprint LQFP100_L
pins: 1 TRACECLK/FSMC_A23/ETH_MII_TXD3 /PE2, 2 TRACED0/FSMC_A19/PE3, 3 TRACED1/FSMC_A20/DCMI_D4/PE4, 4 TRACED2/FSMC_A21/TIM9_CH1/DCMI_D6/PE5, 5 TRACED3/FSMC_A22/TIM9_CH2/DCMI_D7/PE6, 6 VBAT, 7 RTC_AF1/PC13, 8 PC14-OSC32_IN, 9 PC15-OSC32_OUT, 10 VSS, 11 VDD, 12 PH0-OSC_IN, 13 PH1-OSC_OUT, 14 NRST, 15 OTG_HS_ULPI_STP/ADC123_IN10/PC0, 16 ETH_MDC/ADC123_IN11/PC1, 17 SPI2_MISO/OTG_HS_ULPI_DIR/TH_MII_TXD2/I2S2ext_SD/ADC123_IN12/PC2, 18 SPI2_MOSI/I2S2_SD/OTG_HS_ULPI_NXT/ETH_MII_TX_CLK/ADC123_IN13/PC3, 19 VDD, 20 VSSA, 21 VREF+, 22 VDDA, 23 PA0-WKUP/USART2_CTS/ UART4_TX/ETH_MII_CRS/TIM2_CH1_ETR/TIM5_CH1/TIM8_ETR/ADC123_IN0, 24 PA1/USART2_RTS/UART4_RX/ETH_RMII_REF_CLK/ETH_MII_RX_CLK/TIM5_CH2/TIMM2_CH2/ADC123_IN1, 25 PA2/USART2_TX/TIM5_CH3/TIM9_CH1/TIM2_CH3/ETH_MDIO/ADC123_IN2, 26 PA3/USART2_RX/TIM5_CH4/TIM9_CH2/TIM2_CH4/OTG_HS_ULPI_D0/ETH_MII_COL/ADC123_IN3, 27 VSS, 28 VDD, 29 PA4/SPI1_NSS/SPI3_NSS/USART2_CK/DCMI_HSYNC/OTG_HS_SOF/I2S3_WS/ADC12_IN4/DAC1_OUT, 30 PA5/SPI1_SCK/OTG_HS_ULPI_CK/TIM2_CH1_ETR/TIM8_CHIN/ADC12_IN5/DAC2_OUT, 31 PA6/SPI1_MISO/TIM8_BKIN/TIM13_CH1/DCMI_PIXCLK/TIM3_CH1/TIM1_BKIN/ADC12_IN6, 32 PA7/SPI1_MOSI/TIM8_CH1N/TIM14_CH1/TIM3_CH2/ETH_MII_RX_DV/TIM1_CH1N/RMII_CRS_DV/ADC12_IN7, 33 ETH_RMII_RX_D0/ETH_MII_RX_D0/ADC12_IN14/PC4, 34 ETH_RMII_RX_D1/ETH_MII_RX_D1/ADC12_IN15/PC5, 35 PB0/TIM3_CH3/TIM8_CH2N/OTG_HS_ULPI_D1/ETH_MII_RXD2/TIM1_CH2N/ADC12_IN8, 36 PB1/TIM3_CH4/TIM8_CH3N/OTG_HS_ULPI_D2/ETH_MII_RXD3/OTG_HS_INTN/TIM1_CH3N/ADC12_IN9, 37 PB2-BOOT1, 38 FSMC_D4/TIM1_ETR/PE7, 39 FSMC_D5/TIM1_CH1N/PE8, 40 FSMC_D6/TIM1_CH1/PE9, 41 FSMC_D7/TIM1_CH2N/PE10, 42 FSMC_D8/TIM1_CH2/PE11, 43 FSMC_D9/TIM1_CH3N/PE1, 44 FSMC_D10/TIM1_CH3/PE13, 45 FSMC_D11/TIM1_CH4/PE14, 46 FSMC_D12/TIM1_BKIN/PE15, 47 PB10/SPI2_SCK/I2S2_CK/I2C2_SCL/USART3_TX/OTG_HS_ULPI_D3/ETH_MII_RX_ER/TIM2_CH3, 48 PB11/I2C2_SDA/USART3_RX/OTG_HS_ULPI_D4/ETH_RMII_TX_EN/ETH_MII_TX_EN/TIM2_CH4, 49 VCAP1, 50 VDD, 51 PB12/SPI2_NSS/I2S2_WS/I2C2_SMBA/USART3_CK/TIM1_BKIN/CAN2_RX/OTG_HS_ULPI_D5/ETH_RMII_TXD0/ETH_MII_TXD0/OTG_HS_ID, 52 PB13/SPI2_SCK/I2S2_CK/USART3_CTS/TIM1_CH1N/CAN2_TX/OTG_HS_ULPI_D6/ETH_RMII_TXD1/ETH_MII_TXD1/OTG_HS_VBUS, 53 PB14/SPI2_MISO/TIM1_CH2N/TIM12_CH1/OTG_HS_DM/USART3_RTS/TIM8_CH2N/I2S2ext_SD, 54 PB15/SPI2_MOSI/I2S2_SD/TIM1_CH3N/TIM8_CH3N/TIM12_CH2/OTG_HS_DP, 55 FSMC_D13/USART3_TX/PD8, 56 FSMC_D14/USART3_RX/PD9, 57 VDD, 57 FSMC_D15/USART3_CK/PD10, 58 FSMC_CLE/FSMC_A16/USART3_CTS/PD11, 59 FSMC_ALE/FSMC_A17/TIM4_CH1/USART3_RTS/PD12, 60 FSMC_A18/TIM4_CH2/PD13, 61 FSMC_D0/TIM4_CH3/PD14, 62 FSMC_D1/TIM4_CH4/PD15, 63 I2S2_MCK/TIM8_CH1/SDIO_D6/USART6_TX/DCMI_D0/TIM3_CH1/PC6, 64 I2S3_MCK/TIM8_CH2/SDIO_D7/USART6_RX/DCMI_D1/TIM3_CH2/PC7, 65 TIM8_CH3/SDIO_D0/TIM3_CH3/USART6_CK/DCMI_D2/PC8, 66 I2S_CKIN/MCO2/TIM8_CH4/SDIO_D1/I2C3_SDA/DCMI_D3/TIM3_CH4/PC9, 67 PA8/MCO1/USART1_CK/TIM1_CH1/I2C3_SCL/OTG_FS_SOF, 68 PA9/USART1_TX/TIM1_CH2/I2C3_SMBA/DCMI_D0/OTG_FS_VBUS, 69 PA10/USART1_RX/TIM1_CH3/OTG_FS_ID/DCMI_D1, 70 PA11/USART1_CTS/CAN1_RX/TIM1_CH4/OTG_FS_DM, 71 PA12/USART1_RTS/CAN1_TX/TIM1_ETR/OTG_FS_DP, 72 PA13/JTMS-SWDIO, 73 VCAP2, 74 VSS, 76 PA14/JTCK-SWCLK, 77 PA15/JTDI/SPI3_NSS/I2S3_WS/TIM2_CH1_ETR/SPI1_NSS, 78 SPI3_SCK/I2S3_CK/UART4_TX/SDIO_D2/DCMI_D8/USART3_TX/PC10, 79 UART4_RX/SPI3_MISO/SDIO_D3/DCMI_D4/USART3_RX/I2S3ext_SD/PC11, 80 UART5_TX/SDIO_CK/DCMI_D9/SPI3_MOSI/I2S3_SD/USART3_CK/PC12, 81 FSMC_D2/CAN1_RX/PD0, 82 FSMC_D3/CAN1_TX/PD1, 83 TIM3_ETR/UART5_RX/SDIO_CMD/DCMI_D11/PD2, 84 FSMC_CLK/USART2_CTS/PD3, 85 FSMC_NOE/USART2_RTS/PD4, 86 FSMC_NWE/USART2_TX/PD5, 87 FSMC_NWAIT/USART2_RX/PD6, 88 FSMC_NE1/FSMC_NCE2/USART2_CK/PD7, 89 PB3/JTDO/TRACESWO/SPI3_SCK/I2S3_CK/TIM2_CH2/SPI1_SCK, 90 PB4/NJTRST/SPI3_MISO/TIM3_CH1/SPI1_MISO/I2S3ext_SD, 91 PB5/I2C1_SMBA/CAN2_RX/OTG_HS_ULPI_D7/ETH_PPS_OUT/TIM3_CH2/SPI1_MOSI/SPI3_MOSI/DCMI_D10/I2S3_SD, 92 PB6/I2C1_SCL/TIM4_CH1/CAN2_TX/DCMI_D5/USART1_TX, 93 PB7/I2C1_SDA/FSMC_NL/DCMI_VSYNC/USART1_RX/TIM4_CH2, 94 BOOT0/VPP, 95 PB8/TIM4_CH3/SDIO_D4/TIM10_CH1/DCMI_D6/ETH_MII_TXD3/I2C1_SCL/CAN1_RX, 96 PB9/SPI2_NSS/I2S2_WS/TIM4_CH4/TIM11_CH1/SDIO_D5/DCMI_D7/I2C1_SDA/CAN1_TX, 97 TIM4_ETR/FSMC_NBL0/DCMI_D2/PE0, 98 FSMC_NBL1/DCMI_D3/PE1, 99 VSS, 100 VDD

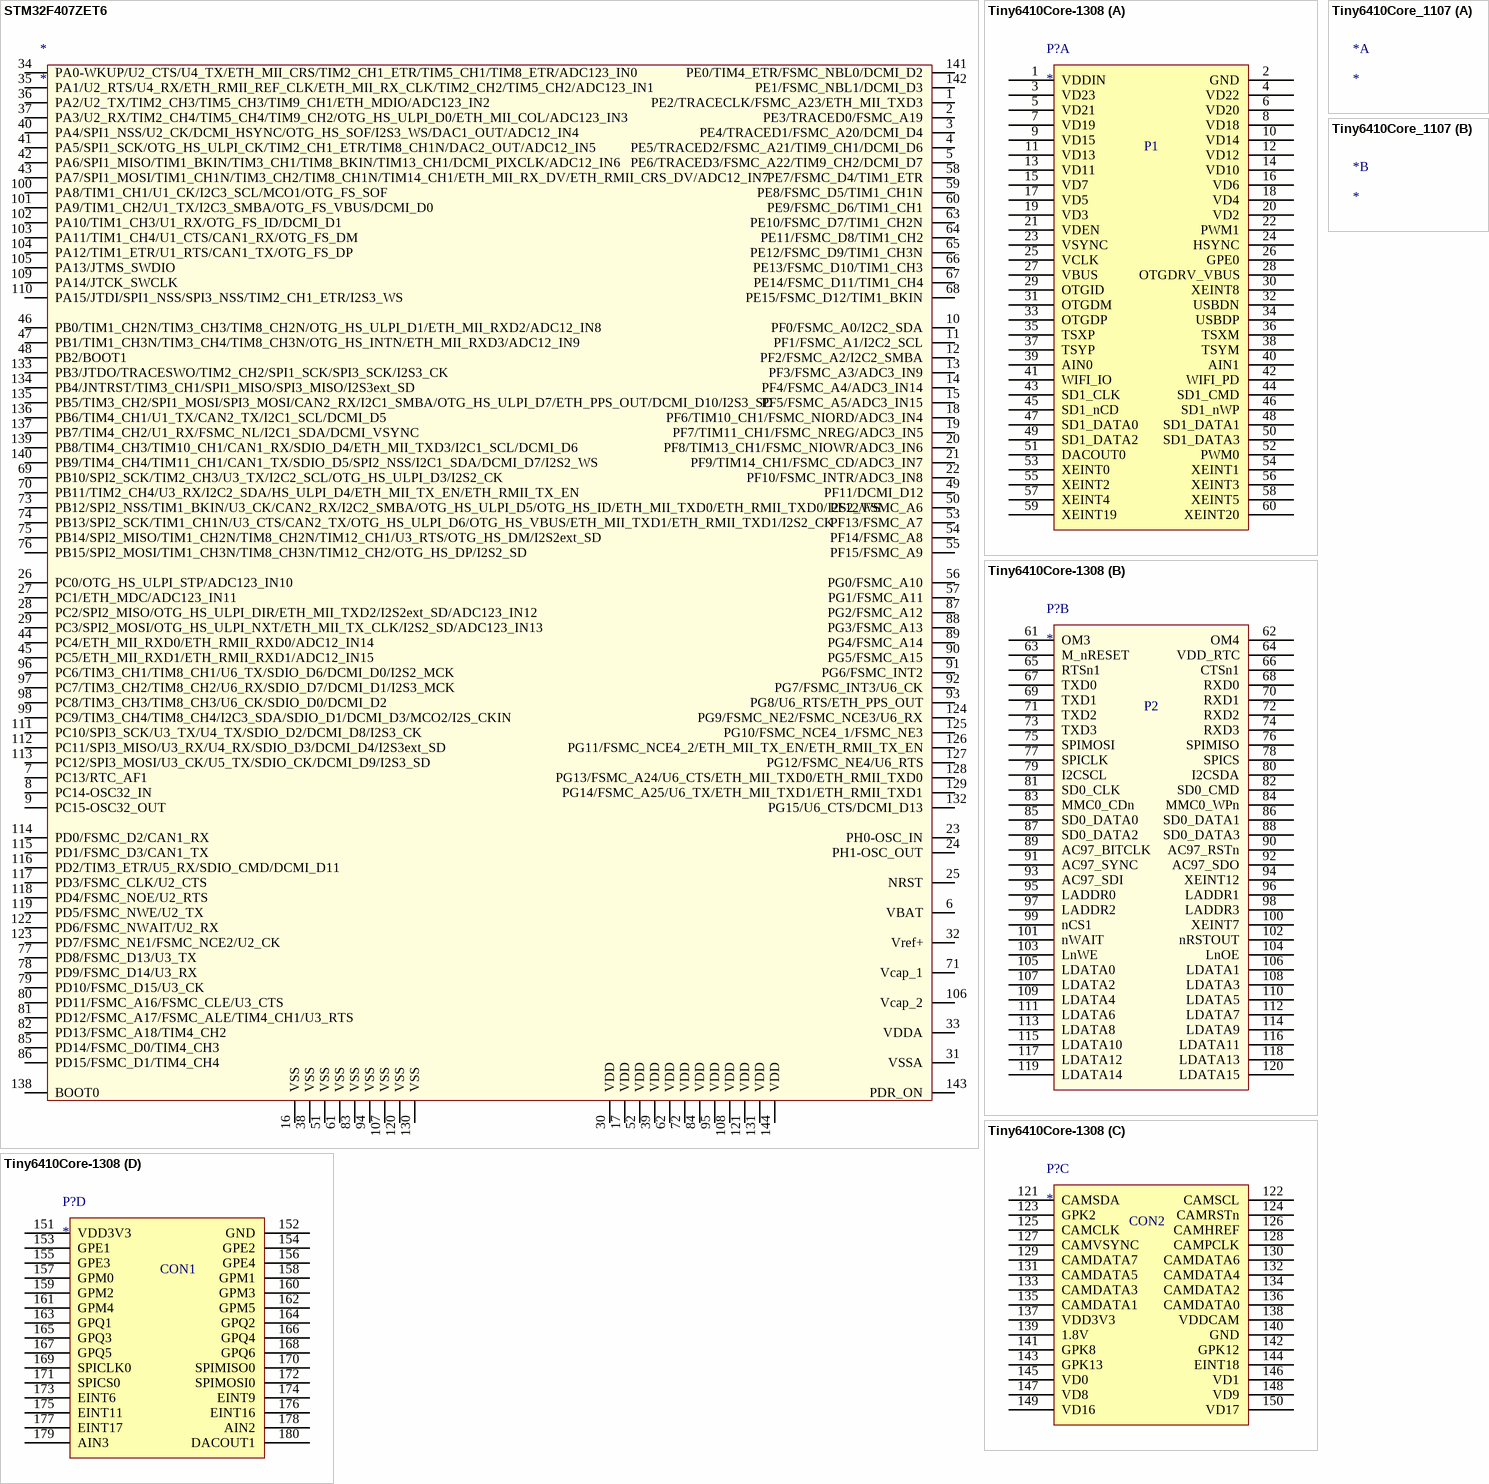
[diagram p7: symbols STM32F407ZET6 to Tiny6410Core_1107]

## STM32F407ZET6
designator *
pins: 1 PE2/TRACECLK/FSMC_A23/ETH_MII_TXD3, 2 PE3/TRACED0/FSMC_A19, 3 PE4/TRACED1/FSMC_A20/DCMI_D4, 4 PE5/TRACED2/FSMC_A21/TIM9_CH1/DCMI_D6, 5 PE6/TRACED3/FSMC_A22/TIM9_CH2/DCMI_D7, 6 VBAT, 7 PC13/RTC_AF1, 8 PC14-OSC32_IN, 9 PC15-OSC32_OUT, 10 PF0/FSMC_A0/I2C2_SDA, 11 PF1/FSMC_A1/I2C2_SCL, 12 PF2/FSMC_A2/I2C2_SMBA, 13 PF3/FSMC_A3/ADC3_IN9, 14 PF4/FSMC_A4/ADC3_IN14, 15 PF5/FSMC_A5/ADC3_IN15, 16 VSS, 17 VDD, 18 PF6/TIM10_CH1/FSMC_NIORD/ADC3_IN4, 19 PF7/TIM11_CH1/FSMC_NREG/ADC3_IN5, 20 PF8/TIM13_CH1/FSMC_NIOWR/ADC3_IN6, 21 PF9/TIM14_CH1/FSMC_CD/ADC3_IN7, 22 PF10/FSMC_INTR/ADC3_IN8, 23 PH0-OSC_IN, 24 PH1-OSC_OUT, 25 NRST, 26 PC0/OTG_HS_ULPI_STP/ADC123_IN10, 27 PC1/ETH_MDC/ADC123_IN11, 28 PC2/SPI2_MISO/OTG_HS_ULPI_DIR/ETH_MII_TXD2/I2S2ext_SD/ADC123_IN12, 29 PC3/SPI2_MOSI/OTG_HS_ULPI_NXT/ETH_MII_TX_CLK/I2S2_SD/ADC123_IN13, 30 VDD, 31 VSSA, 32 Vref+, 33 VDDA, 34 PA0-WKUP/U2_CTS/U4_TX/ETH_MII_CRS/TIM2_CH1_ETR/TIM5_CH1/TIM8_ETR/ADC123_IN0, 35 PA1/U2_RTS/U4_RX/ETH_RMII_REF_CLK/ETH_MII_RX_CLK/TIM2_CH2/TIM5_CH2/ADC123_IN1, 36 PA2/U2_TX/TIM2_CH3/TIM5_CH3/TIM9_CH1/ETH_MDIO/ADC123_IN2, 37 PA3/U2_RX/TIM2_CH4/TIM5_CH4/TIM9_CH2/OTG_HS_ULPI_D0/ETH_MII_COL/ADC123_IN3, 38 VSS, 39 VDD, 40 PA4/SPI1_NSS/U2_CK/DCMI_HSYNC/OTG_HS_SOF/I2S3_WS/DAC1_OUT/ADC12_IN4, 41 PA5/SPI1_SCK/OTG_HS_ULPI_CK/TIM2_CH1_ETR/TIM8_CH1N/DAC2_OUT/ADC12_IN5, 42 PA6/SPI1_MISO/TIM1_BKIN/TIM3_CH1/TIM8_BKIN/TIM13_CH1/DCMI_PIXCLK/ADC12_IN6, 43 PA7/SPI1_MOSI/TIM1_CH1N/TIM3_CH2/TIM8_CH1N/TIM14_CH1/ETH_MII_RX_DV/ETH_RMII_CRS_DV/ADC12_IN7, 44 PC4/ETH_MII_RXD0/ETH_RMII_RXD0/ADC12_IN14, 45 PC5/ETH_MII_RXD1/ETH_RMII_RXD1/ADC12_IN15, 46 PB0/TIM1_CH2N/TIM3_CH3/TIM8_CH2N/OTG_HS_ULPI_D1/ETH_MII_RXD2/ADC12_IN8, 47 PB1/TIM1_CH3N/TIM3_CH4/TIM8_CH3N/OTG_HS_INTN/ETH_MII_RXD3/ADC12_IN9, 48 PB2/BOOT1, 49 PF11/DCMI_D12, 50 PF12/FSMC_A6, 51 VSS, 52 VDD, 53 PF13/FSMC_A7, 54 PF14/FSMC_A8, 55 PF15/FSMC_A9, 56 PG0/FSMC_A10, 57 PG1/FSMC_A11, 58 PE7/FSMC_D4/TIM1_ETR, 59 PE8/FSMC_D5/TIM1_CH1N, 60 PE9/FSMC_D6/TIM1_CH1, 61 VSS, 62 VDD, 63 PE10/FSMC_D7/TIM1_CH2N, 64 PE11/FSMC_D8/TIM1_CH2, 65 PE12/FSMC_D9/TIM1_CH3N, 66 PE13/FSMC_D10/TIM1_CH3, 67 PE14/FSMC_D11/TIM1_CH4, 68 PE15/FSMC_D12/TIM1_BKIN, 69 PB10/SPI2_SCK/TIM2_CH3/U3_TX/I2C2_SCL/OTG_HS_ULPI_D3/I2S2_CK, 70 PB11/TIM2_CH4/U3_RX/I2C2_SDA/HS_ULPI_D4/ETH_MII_TX_EN/ETH_RMII_TX_EN, 71 Vcap_1, 72 VDD, 73 PB12/SPI2_NSS/TIM1_BKIN/U3_CK/CAN2_RX/I2C2_SMBA/OTG_HS_ULPI_D5/OTG_HS_ID/ETH_MII_TXD0/ETH_RMII_TXD0/I2S2_WS, 74 PB13/SPI2_SCK/TIM1_CH1N/U3_CTS/CAN2_TX/OTG_HS_ULPI_D6/OTG_HS_VBUS/ETH_MII_TXD1/ETH_RMII_TXD1/I2S2_CK, 75 PB14/SPI2_MISO/TIM1_CH2N/TIM8_CH2N/TIM12_CH1/U3_RTS/OTG_HS_DM/I2S2ext_SD, 76 PB15/SPI2_MOSI/TIM1_CH3N/TIM8_CH3N/TIM12_CH2/OTG_HS_DP/I2S2_SD, 77 PD8/FSMC_D13/U3_TX, 78 PD9/FSMC_D14/U3_RX, 79 PD10/FSMC_D15/U3_CK, 80 PD11/FSMC_A16/FSMC_CLE/U3_CTS, 81 PD12/FSMC_A17/FSMC_ALE/TIM4_CH1/U3_RTS, 82 PD13/FSMC_A18/TIM4_CH2, 83 VSS, 84 VDD, 85 PD14/FSMC_D0/TIM4_CH3, 86 PD15/FSMC_D1/TIM4_CH4, 87 PG2/FSMC_A12, 88 PG3/FSMC_A13, 89 PG4/FSMC_A14, 90 PG5/FSMC_A15, 91 PG6/FSMC_INT2, 92 PG7/FSMC_INT3/U6_CK, 93 PG8/U6_RTS/ETH_PPS_OUT, 94 VSS, 95 VDD, 96 PC6/TIM3_CH1/TIM8_CH1/U6_TX/SDIO_D6/DCMI_D0/I2S2_MCK, 97 PC7/TIM3_CH2/TIM8_CH2/U6_RX/SDIO_D7/DCMI_D1/I2S3_MCK, 98 PC8/TIM3_CH3/TIM8_CH3/U6_CK/SDIO_D0/DCMI_D2, 99 PC9/TIM3_CH4/TIM8_CH4/I2C3_SDA/SDIO_D1/DCMI_D3/MCO2/I2S_CKIN, 100 PA8/TIM1_CH1/U1_CK/I2C3_SCL/MCO1/OTG_FS_SOF, 101 PA9/TIM1_CH2/U1_TX/I2C3_SMBA/OTG_FS_VBUS/DCMI_D0, 102 PA10/TIM1_CH3/U1_RX/OTG_FS_ID/DCMI_D1, 103 PA11/TIM1_CH4/U1_CTS/CAN1_RX/OTG_FS_DM, 104 PA12/TIM1_ETR/U1_RTS/CAN1_TX/OTG_FS_DP, 105 PA13/JTMS_SWDIO, 106 Vcap_2, 107 VSS, 108 VDD, 109 PA14/JTCK_SWCLK, 110 PA15/JTDI/SPI1_NSS/SPI3_NSS/TIM2_CH1_ETR/I2S3_WS, 111 PC10/SPI3_SCK/U3_TX/U4_TX/SDIO_D2/DCMI_D8/I2S3_CK, 112 PC11/SPI3_MISO/U3_RX/U4_RX/SDIO_D3/DCMI_D4/I2S3ext_SD, 113 PC12/SPI3_MOSI/U3_CK/U5_TX/SDIO_CK/DCMI_D9/I2S3_SD, 114 PD0/FSMC_D2/CAN1_RX, 115 PD1/FSMC_D3/CAN1_TX, 116 PD2/TIM3_ETR/U5_RX/SDIO_CMD/DCMI_D11, 117 PD3/FSMC_CLK/U2_CTS, 118 PD4/FSMC_NOE/U2_RTS, 119 PD5/FSMC_NWE/U2_TX, 120 VSS, 121 VDD, 122 PD6/FSMC_NWAIT/U2_RX, 123 PD7/FSMC_NE1/FSMC_NCE2/U2_CK, 124 PG9/FSMC_NE2/FSMC_NCE3/U6_RX, 125 PG10/FSMC_NCE4_1/FSMC_NE3, 126 PG11/FSMC_NCE4_2/ETH_MII_TX_EN/ETH_RMII_TX_EN, 127 PG12/FSMC_NE4/U6_RTS, 128 PG13/FSMC_A24/U6_CTS/ETH_MII_TXD0/ETH_RMII_TXD0, 129 PG14/FSMC_A25/U6_TX/ETH_MII_TXD1/ETH_RMII_TXD1, 130 VSS, 131 VDD, 132 PG15/U6_CTS/DCMI_D13, 133 PB3/JTDO/TRACESWO/TIM2_CH2/SPI1_SCK/SPI3_SCK/I2S3_CK, 134 PB4/JNTRST/TIM3_CH1/SPI1_MISO/SPI3_MISO/I2S3ext_SD, 135 PB5/TIM3_CH2/SPI1_MOSI/SPI3_MOSI/CAN2_RX/I2C1_SMBA/OTG_HS_ULPI_D7/ETH_PPS_OUT/DCMI_D10/I2S3_SD, 136 PB6/TIM4_CH1/U1_TX/CAN2_TX/I2C1_SCL/DCMI_D5, 137 PB7/TIM4_CH2/U1_RX/FSMC_NL/I2C1_SDA/DCMI_VSYNC, 138 BOOT0, 139 PB8/TIM4_CH3/TIM10_CH1/CAN1_RX/SDIO_D4/ETH_MII_TXD3/I2C1_SCL/DCMI_D6, 140 PB9/TIM4_CH4/TIM11_CH1/CAN1_TX/SDIO_D5/SPI2_NSS/I2C1_SDA/DCMI_D7/I2S2_WS, 141 PE0/TIM4_ETR/FSMC_NBL0/DCMI_D2, 142 PE1/FSMC_NBL1/DCMI_D3, 143 PDR_ON, 144 VDD

## Tiny6410Core-1308
designator P?
footprint Tiny6410Core
part A pins: 1 VDDIN, 2 GND, 3 VD23, 4 VD22, 5 VD21, 6 VD20, 7 VD19, 8 VD18, 9 VD15, 10 VD14, 11 VD13, 12 VD12, 13 VD11, 14 VD10, 15 VD7, 16 VD6, 17 VD5, 18 VD4, 19 VD3, 20 VD2, 21 VDEN, 22 PWM1, 23 VSYNC, 24 HSYNC, 25 VCLK, 26 GPE0, 27 VBUS, 28 OTGDRV_VBUS, 29 OTGID, 30 XEINT8, 31 OTGDM, 32 USBDN, 33 OTGDP, 34 USBDP, 35 TSXP, 36 TSXM, 37 TSYP, 38 TSYM, 39 AIN0, 40 AIN1, 41 WIFI_IO, 42 WIFI_PD, 43 SD1_CLK, 44 SD1_CMD, 45 SD1_nCD, 46 SD1_nWP, 47 SD1_DATA0, 48 SD1_DATA1, 49 SD1_DATA2, 50 SD1_DATA3, 51 DACOUT0, 52 PWM0, 53 XEINT0, 54 XEINT1, 55 XEINT2, 56 XEINT3, 57 XEINT4, 58 XEINT5, 59 XEINT19, 60 XEINT20
part B pins: 61 OM3, 62 OM4, 63 M_nRESET, 64 VDD_RTC, 65 RTSn1, 66 CTSn1, 67 TXD0, 68 RXD0, 69 TXD1, 70 RXD1, 71 TXD2, 72 RXD2, 73 TXD3, 74 RXD3, 75 SPIMOSI, 76 SPIMISO, 77 SPICLK, 78 SPICS, 79 I2CSCL, 80 I2CSDA, 81 SD0_CLK, 82 SD0_CMD, 83 MMC0_CDn, 84 MMC0_WPn, 85 SD0_DATA0, 86 SD0_DATA1, 87 SD0_DATA2, 88 SD0_DATA3, 89 AC97_BITCLK, 90 AC97_RSTn, 91 AC97_SYNC, 92 AC97_SDO, 93 AC97_SDI, 94 XEINT12, 95 LADDR0, 96 LADDR1, 97 LADDR2, 98 LADDR3, 99 nCS1, 100 XEINT7, 101 nWAIT, 102 nRSTOUT, 103 LnWE, 104 LnOE, 105 LDATA0, 106 LDATA1, 107 LDATA2, 108 LDATA3, 109 LDATA4, 110 LDATA5, 111 LDATA6, 112 LDATA7, 113 LDATA8, 114 LDATA9, 115 LDATA10, 116 LDATA11, 117 LDATA12, 118 LDATA13, 119 LDATA14, 120 LDATA15
part C pins: 121 CAMSDA, 122 CAMSCL, 123 GPK2, 124 CAMRSTn, 125 CAMCLK, 126 CAMHREF, 127 CAMVSYNC, 128 CAMPCLK, 129 CAMDATA7, 130 CAMDATA6, 131 CAMDATA5, 132 CAMDATA4, 133 CAMDATA3, 134 CAMDATA2, 135 CAMDATA1, 136 CAMDATA0, 137 VDD3V3, 138 VDDCAM, 139 1.8V, 140 GND, 141 GPK8, 142 GPK12, 143 GPK13, 144 EINT18, 145 VD0, 146 VD1, 147 VD8, 148 VD9, 149 VD16, 150 VD17
part D pins: 151 VDD3V3, 152 GND, 153 GPE1, 154 GPE2, 155 GPE3, 156 GPE4, 157 GPM0, 158 GPM1, 159 GPM2, 160 GPM3, 161 GPM4, 162 GPM5, 163 GPQ1, 164 GPQ2, 165 GPQ3, 166 GPQ4, 167 GPQ5, 168 GPQ6, 169 SPICLK0, 170 SPIMISO0, 171 SPICS0, 172 SPIMOSI0, 173 EINT6, 174 EINT9, 175 EINT11, 176 EINT16, 177 EINT17, 178 AIN2, 179 AIN3, 180 DACOUT1
part A text: P1
part B text: P2
part C text: CON2
part D text: CON1

## Tiny6410Core_1107
designator *